# Altium integrated library Renesas Microprocessor SuperH.IntLib: 433 symbols (part 29 of 62)
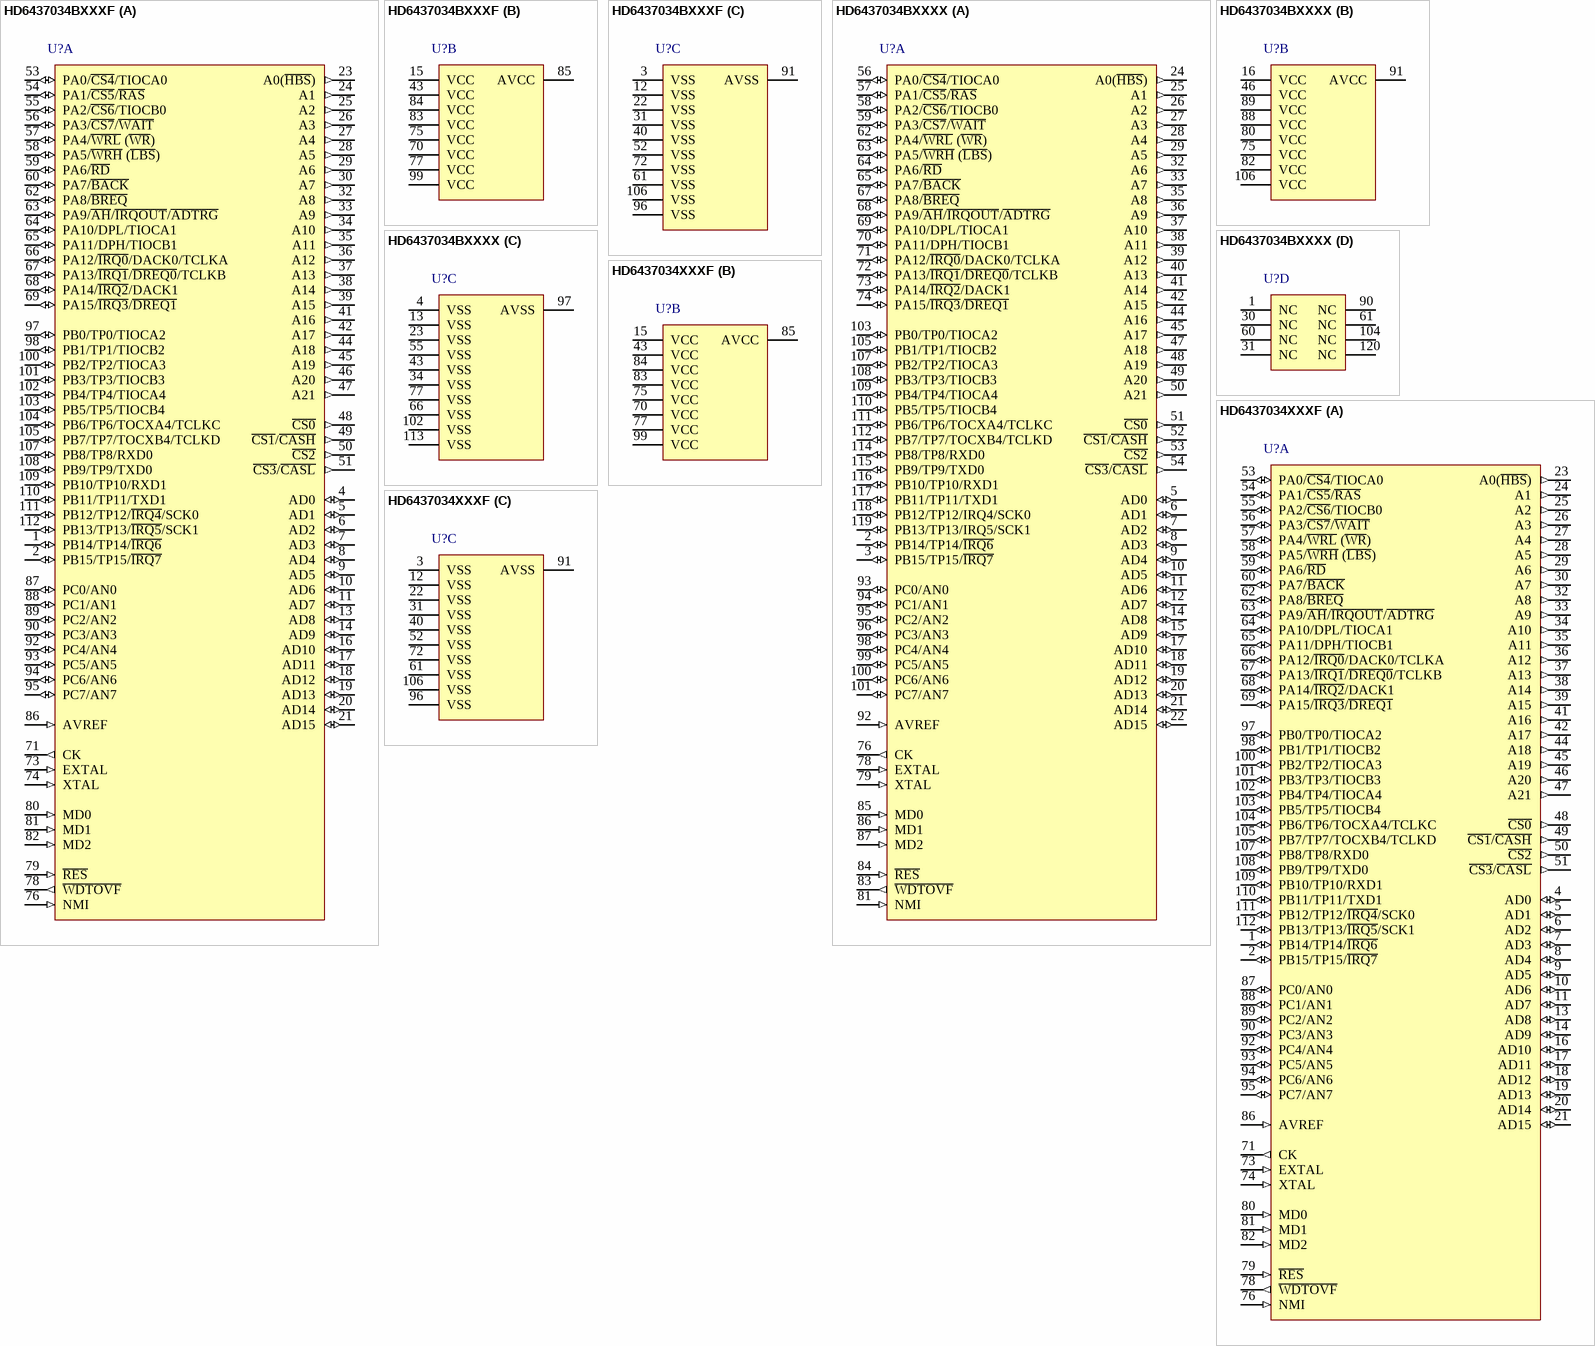
[diagram p300: symbols HD6437034BXXXF to HD6437034XXXF]

## HD6437034XXXF
designator U?
32-Bit RISC Microcomputer, SH7030 Series, SH-1 core, 20MHz, 64K ROM, 4K RAM, PRQP0112JA-A (FP-112) Package; Published: 28-Aug-2009; DatasheetVersion: Rev.7.00, Jan-2006; PackageVersion: Sep-2005; PackageReference: PRQP0112JA-A; Publisher: Altium Limited; PackageDescription: 112-Pin Plastic Quad Flat Pack, 20 x 20 x 2.7 mm Body, 0.65 mm Pitch; Code_JEITA: P-QFP112-20x20-0.65; ComponentLink1Description: Manufacturer Link; ComponentLink1URL: http://www.renesas.com/fmwk.jsp?cnt=sh7032_root.jsp&fp=/products/mpumcu/superh_family/sh7030_series/sh7032_group/; ComponentLink2Description: Datasheet; ComponentLink2URL: http://documentation.renesas.com/eng/products/mpumcu/rej09b0272_7032hm.pdf; ComponentLink3Description: Packaging Specification; ComponentLink3URL: http://sg.renesas.com/media/products/common_info/package/pdf/ic/code/prqp0112ja_a.pdf
footprint PRQP0112JA-A_N (QFP, 112-Leads, Body 20x20mm, Pitch 0.65mm, IPC Medium Density)
footprint PRQP0112JA-A_L (QFP, 112-Leads, Body 20x20mm, Pitch 0.65mm, IPC High Density)
footprint PRQP0112JA-A_M (QFP, 112-Leads, Body 20x20mm, Pitch 0.65mm, IPC Low Density)
part A pins: 1 PB14/TP14/~{IRQ6} (io), 2 PB15/TP15/~{IRQ7} (io), 4 AD0 (io), 5 AD1 (io), 6 AD2 (io), 7 AD3 (io), 8 AD4 (io), 9 AD5 (io), 10 AD6 (io), 11 AD7 (io), 13 AD8 (io), 14 AD9 (io), 16 AD10 (io), 17 AD11 (io), 18 AD12 (io), 19 AD13 (io), 20 AD14 (io), 21 AD15 (io), 23 A0(~{HBS}) (out), 24 A1 (out), 25 A2 (out), 26 A3 (out), 27 A4 (out), 28 A5 (out), 29 A6 (out), 30 A7 (out), 32 A8 (out), 33 A9 (out), 34 A10 (out), 35 A11 (out), 36 A12 (out), 37 A13 (out), 38 A14 (out), 39 A15 (out), 41 A16 (out), 42 A17 (out), 44 A18 (out), 45 A19 (out), 46 A20 (out), 47 A21 (out), 48 ~{CS0} (out), 49 ~{CS1}/~{CASH} (out), 50 ~{CS2} (out), 51 ~{CS3}/~{CASL} (out), 53 PA0/~{CS4}/TIOCA0 (io), 54 PA1/~{CS5}/~{RAS} (io), 55 PA2/~{CS6}/TIOCB0 (io), 56 PA3/~{CS7}/~{WAIT} (io), 57 PA4/~{WRL} (~{WR}) (io), 58 PA5/~{WRH} (~{LBS}) (io), 59 PA6/~{RD} (io), 60 PA7/~{BACK} (io), 62 PA8/~{BREQ} (io), 63 PA9/~{AH}/~{IRQOUT}/~{ADTRG} (io), 64 PA10/DPL/TIOCA1 (io), 65 PA11/DPH/TIOCB1 (io), 66 PA12/~{IRQ0}/DACK0/TCLKA (io), 67 PA13/~{IRQ1}/~{DREQ0}/TCLKB (io), 68 PA14/~{IRQ2}/DACK1 (io), 69 PA15/~{IRQ3}/~{DREQ1} (io), 71 CK (out), 73 EXTAL (in), 74 XTAL (in), 76 NMI (in), 78 ~{WDTOVF} (out), 79 ~{RES} (in), 80 MD0 (in), 81 MD1 (in), 82 MD2 (in), 86 AVREF (in), 87 PC0/AN0 (io), 88 PC1/AN1 (io), 89 PC2/AN2 (io), 90 PC3/AN3 (io), 92 PC4/AN4 (io), 93 PC5/AN5 (io), 94 PC6/AN6 (io), 95 PC7/AN7 (io), 97 PB0/TP0/TIOCA2 (io), 98 PB1/TP1/TIOCB2 (io), 100 PB2/TP2/TIOCA3 (io), 101 PB3/TP3/TIOCB3 (io), 102 PB4/TP4/TIOCA4 (io), 103 PB5/TP5/TIOCB4 (io), 104 PB6/TP6/TOCXA4/TCLKC (io), 105 PB7/TP7/TOCXB4/TCLKD (io), 107 PB8/TP8/RXD0 (io), 108 PB9/TP9/TXD0 (io), 109 PB10/TP10/RXD1 (io), 110 PB11/TP11/TXD1 (io), 111 PB12/TP12/~{IRQ4}/SCK0 (io), 112 PB13/TP13/~{IRQ5}/SCK1 (io)
part B pins: 15 VCC (power), 43 VCC (power), 70 VCC (power), 75 VCC (power), 77 VCC (power), 83 VCC (power), 84 VCC (power), 85 AVCC (power), 99 VCC (power)
part C pins: 3 VSS (power), 12 VSS (power), 22 VSS (power), 31 VSS (power), 40 VSS (power), 52 VSS (power), 61 VSS (power), 72 VSS (power), 91 AVSS (power), 96 VSS (power), 106 VSS (power)

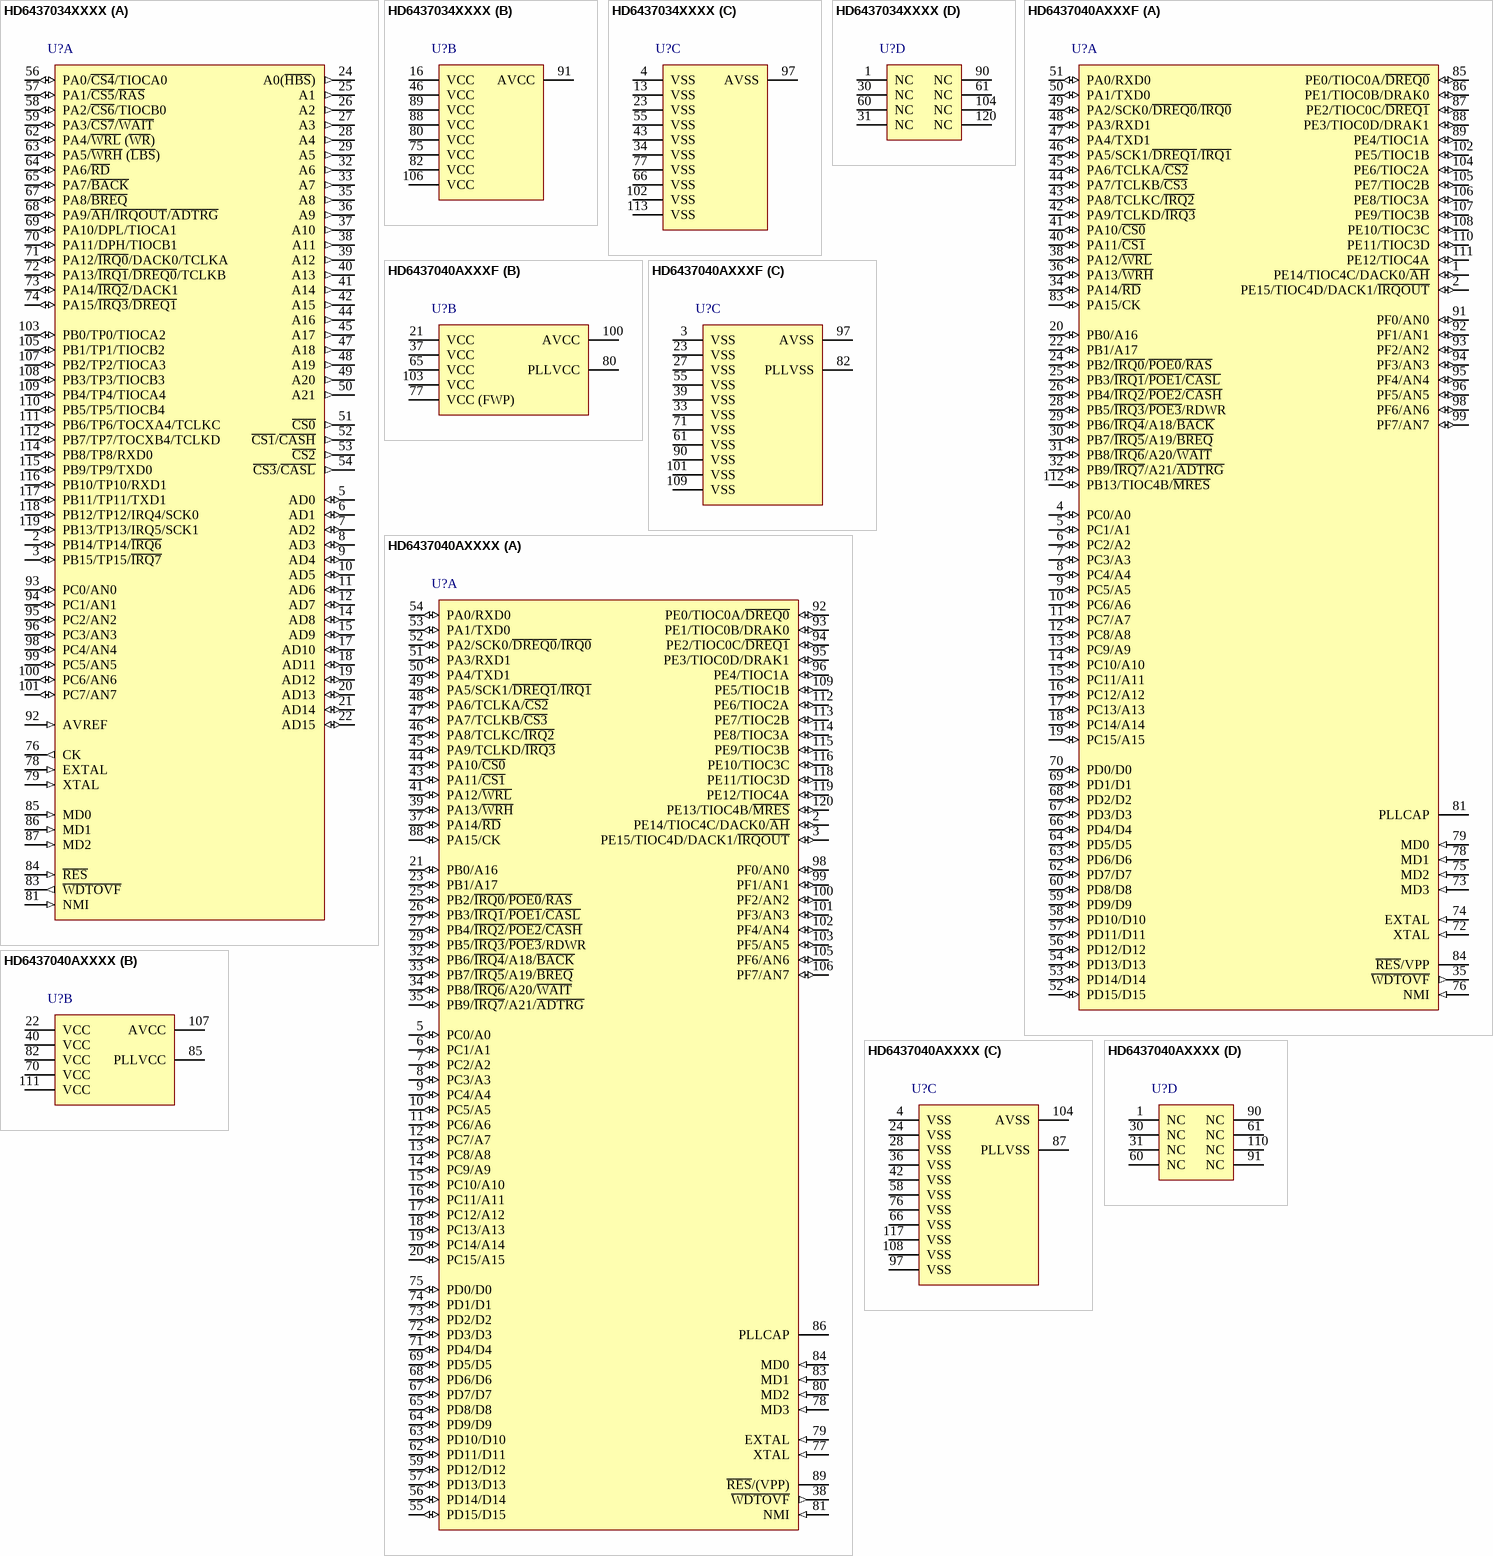
[diagram p105: symbols HD6437034XXXX to HD6437040AXXXX]

## HD6437034XXXX
designator U?
32-Bit RISC Microcomputer, SH7030 Series, SH-1 core, 20MHz, 64K ROM, 4K RAM, PTQP0120LA-A (TFP-120) Package; Published: 28-Aug-2009; DatasheetVersion: Rev.7.00, Jan-2006; PackageVersion: Sep-2005; PackageReference: PTQP0120LA-A; Publisher: Altium Limited; PackageDescription: 120-Pin Plastic Thin QFP, 14 x 14 x 1.0 mm Body, 0.4 mm Pitch; Code_JEITA: P-TQFP120-14x14-0.40; ComponentLink1Description: Manufacturer Link; ComponentLink1URL: http://www.renesas.com/fmwk.jsp?cnt=sh7032_root.jsp&fp=/products/mpumcu/superh_family/sh7030_series/sh7032_group/; ComponentLink2Description: Datasheet; ComponentLink2URL: http://documentation.renesas.com/eng/products/mpumcu/rej09b0272_7032hm.pdf; ComponentLink3Description: Packaging Specification; ComponentLink3URL: http://sg.renesas.com/media/products/common_info/package/pdf/ic/code/ptqp0120la_a.pdf
footprint PTQP0120LA-A_N (Thin QFP, 120-Leads, Body 14x14mm, Pitch 0.4mm, IPC Medium Density)
footprint PTQP0120LA-A_L (Thin QFP, 120-Leads, Body 14x14mm, Pitch 0.4mm, IPC High Density)
footprint PTQP0120LA-A_M (Thin QFP, 120-Leads, Body 14x14mm, Pitch 0.4mm, IPC Low Density)
part A pins: 2 PB14/TP14/~{IRQ6} (io), 3 PB15/TP15/~{IRQ7} (io), 5 AD0 (io), 6 AD1 (io), 7 AD2 (io), 8 AD3 (io), 9 AD4 (io), 10 AD5 (io), 11 AD6 (io), 12 AD7 (io), 14 AD8 (io), 15 AD9 (io), 17 AD10 (io), 18 AD11 (io), 19 AD12 (io), 20 AD13 (io), 21 AD14 (io), 22 AD15 (io), 24 A0(~{HBS}) (out), 25 A1 (out), 26 A2 (out), 27 A3 (out), 28 A4 (out), 29 A5 (out), 32 A6 (out), 33 A7 (out), 35 A8 (out), 36 A9 (out), 37 A10 (out), 38 A11 (out), 39 A12 (out), 40 A13 (out), 41 A14 (out), 42 A15 (out), 44 A16 (out), 45 A17 (out), 47 A18 (out), 48 A19 (out), 49 A20 (out), 50 A21 (out), 51 ~{CS0} (out), 52 ~{CS1}/~{CASH} (out), 53 ~{CS2} (out), 54 ~{CS3}/~{CASL} (out), 56 PA0/~{CS4}/TIOCA0 (io), 57 PA1/~{CS5}/~{RAS} (io), 58 PA2/~{CS6}/TIOCB0 (io), 59 PA3/~{CS7}/~{WAIT} (io), 62 PA4/~{WRL} (~{WR}) (io), 63 PA5/~{WRH} (~{LBS}) (io), 64 PA6/~{RD} (io), 65 PA7/~{BACK} (io), 67 PA8/~{BREQ} (io), 68 PA9/~{AH}/~{IRQOUT}/~{ADTRG} (io), 69 PA10/DPL/TIOCA1 (io), 70 PA11/DPH/TIOCB1 (io), 71 PA12/~{IRQ0}/DACK0/TCLKA (io), 72 PA13/~{IRQ1}/~{DREQ0}/TCLKB (io), 73 PA14/~{IRQ2}/DACK1 (io), 74 PA15/~{IRQ3}/~{DREQ1} (io), 76 CK (out), 78 EXTAL (in), 79 XTAL (in), 81 NMI (in), 83 ~{WDTOVF} (out), 84 ~{RES} (in), 85 MD0 (in), 86 MD1 (in), 87 MD2 (in), 92 AVREF (in), 93 PC0/AN0 (io), 94 PC1/AN1 (io), 95 PC2/AN2 (io), 96 PC3/AN3 (io), 98 PC4/AN4 (io), 99 PC5/AN5 (io), 100 PC6/AN6 (io), 101 PC7/AN7 (io), 103 PB0/TP0/TIOCA2 (io), 105 PB1/TP1/TIOCB2 (io), 107 PB2/TP2/TIOCA3 (io), 108 PB3/TP3/TIOCB3 (io), 109 PB4/TP4/TIOCA4 (io), 110 PB5/TP5/TIOCB4 (io), 111 PB6/TP6/TOCXA4/TCLKC (io), 112 PB7/TP7/TOCXB4/TCLKD (io), 114 PB8/TP8/RXD0 (io), 115 PB9/TP9/TXD0 (io), 116 PB10/TP10/RXD1 (io), 117 PB11/TP11/TXD1 (io), 118 PB12/TP12/IRQ4/SCK0 (io), 119 PB13/TP13/IRQ5/SCK1 (io)
part B pins: 16 VCC (power), 46 VCC (power), 75 VCC (power), 80 VCC (power), 82 VCC (power), 88 VCC (power), 89 VCC (power), 91 AVCC (power), 106 VCC (power)
part C pins: 4 VSS (power), 13 VSS (power), 23 VSS (power), 34 VSS (power), 43 VSS (power), 55 VSS (power), 66 VSS (power), 77 VSS (power), 97 AVSS (power), 102 VSS (power), 113 VSS (power)
part D pins: 1 NC, 30 NC, 31 NC, 60 NC, 61 NC, 90 NC, 104 NC, 120 NC

## HD6437040AXXXF
designator U?
32-Bit RISC Microcomputer, SH7040 Series, SH-2 core, 28.7MHz, 64K ROM, 4K(2K) RAM, PRQP0112JA-A (FP-112) Package; Published: 28-Aug-2009; DatasheetVersion: Rev.6.00, May-2003; PackageVersion: Sep-2005; PackageReference: PRQP0112JA-A; Publisher: Altium Limited; PackageDescription: 112-Pin Plastic Quad Flat Pack, 20 x 20 x 2.7 mm Body, 0.65 mm Pitch; Code_JEITA: P-QFP112-20x20-0.65; ComponentLink1Description: Manufacturer Link; ComponentLink1URL: http://www.renesas.com/fmwk.jsp?cnt=sh7040_root.jsp&fp=/products/mpumcu/superh_family/sh7040_series/sh7040_group/; ComponentLink2Description: Datasheet; ComponentLink2URL: http://documentation.renesas.com/eng/products/mpumcu/rej09b0044_sh7040.pdf; ComponentLink3Description: Packaging Specification; ComponentLink3URL: http://sg.renesas.com/media/products/common_info/package/pdf/ic/code/prqp0112ja_a.pdf
footprint PRQP0112JA-A_N (QFP, 112-Leads, Body 20x20mm, Pitch 0.65mm, IPC Medium Density)
footprint PRQP0112JA-A_L (QFP, 112-Leads, Body 20x20mm, Pitch 0.65mm, IPC High Density)
footprint PRQP0112JA-A_M (QFP, 112-Leads, Body 20x20mm, Pitch 0.65mm, IPC Low Density)
part A pins: 1 PE14/TIOC4C/DACK0/~{AH} (io), 2 PE15/TIOC4D/DACK1/~{IRQOUT} (io), 4 PC0/A0 (io), 5 PC1/A1 (io), 6 PC2/A2 (io), 7 PC3/A3 (io), 8 PC4/A4 (io), 9 PC5/A5 (io), 10 PC6/A6 (io), 11 PC7/A7 (io), 12 PC8/A8 (io), 13 PC9/A9 (io), 14 PC10/A10 (io), 15 PC11/A11 (io), 16 PC12/A12 (io), 17 PC13/A13 (io), 18 PC14/A14 (io), 19 PC15/A15 (io), 20 PB0/A16 (io), 22 PB1/A17 (io), 24 PB2/~{IRQ0}/~{POE0}/~{RAS} (io), 25 PB3/~{IRQ1}/~{POE1}/~{CASL} (io), 26 PB4/~{IRQ2}/~{POE2}/~{CASH} (io), 28 PB5/~{IRQ3}/~{POE3}/RDWR (io), 29 PB6/~{IRQ4}/A18/~{BACK} (io), 30 PB7/~{IRQ5}/A19/~{BREQ} (io), 31 PB8/~{IRQ6}/A20/~{WAIT} (io), 32 PB9/~{IRQ7}/A21/~{ADTRG} (io), 34 PA14/~{RD} (io), 35 ~{WDTOVF} (out), 36 PA13/~{WRH} (io), 38 PA12/~{WRL} (io), 40 PA11/~{CS1} (io), 41 PA10/~{CS0} (io), 42 PA9/TCLKD/~{IRQ3} (io), 43 PA8/TCLKC/~{IRQ2} (io), 44 PA7/TCLKB/~{CS3} (io), 45 PA6/TCLKA/~{CS2} (io), 46 PA5/SCK1/~{DREQ1}/~{IRQ1} (io), 47 PA4/TXD1 (io), 48 PA3/RXD1 (io), 49 PA2/SCK0/~{DREQ0}/~{IRQ0} (io), 50 PA1/TXD0 (io), 51 PA0/RXD0 (io), 52 PD15/D15 (io), 53 PD14/D14 (io), 54 PD13/D13 (io), 56 PD12/D12 (io), 57 PD11/D11 (io), 58 PD10/D10 (io), 59 PD9/D9 (io), 60 PD8/D8 (io), 62 PD7/D7 (io), 63 PD6/D6 (io), 64 PD5/D5 (io), 66 PD4/D4 (io), 67 PD3/D3 (io), 68 PD2/D2 (io), 69 PD1/D1 (io), 70 PD0/D0 (io), 72 XTAL (in), 73 MD3 (in), 74 EXTAL (in), 75 MD2 (in), 76 NMI (in), 78 MD1 (in), 79 MD0 (in), 81 PLLCAP, 83 PA15/CK (io), 84 ~{RES}/VPP, 85 PE0/TIOC0A/~{DREQ0} (io), 86 PE1/TIOC0B/DRAK0 (io), 87 PE2/TIOC0C/~{DREQ1} (io), 88 PE3/TIOC0D/DRAK1 (io), 89 PE4/TIOC1A (io), 91 PF0/AN0 (io), 92 PF1/AN1 (io), 93 PF2/AN2 (io), 94 PF3/AN3 (io), 95 PF4/AN4 (io), 96 PF5/AN5 (io), 98 PF6/AN6 (io), 99 PF7/AN7 (io), 102 PE5/TIOC1B (io), 104 PE6/TIOC2A (io), 105 PE7/TIOC2B (io), 106 PE8/TIOC3A (io), 107 PE9/TIOC3B (io), 108 PE10/TIOC3C (io), 110 PE11/TIOC3D (io), 111 PE12/TIOC4A (io), 112 PB13/TIOC4B/~{MRES} (io)
part B pins: 21 VCC (power), 37 VCC (power), 65 VCC (power), 77 VCC (FWP) (power), 80 PLLVCC (power), 100 AVCC (power), 103 VCC (power)
part C pins: 3 VSS (power), 23 VSS (power), 27 VSS (power), 33 VSS (power), 39 VSS (power), 55 VSS (power), 61 VSS (power), 71 VSS (power), 82 PLLVSS (power), 90 VSS (power), 97 AVSS (power), 101 VSS (power), 109 VSS (power)

## HD6437040AXXXX
designator U?
32-Bit RISC Microcomputer, SH7040 Series, SH-2 core, 16MHz, 64K ROM, 4K(2K) RAM, PTQP0120LA-A (TFP-120) Package; Published: 28-Aug-2009; DatasheetVersion: Rev.6.00, May-2003; PackageVersion: Sep-2005; PackageReference: PTQP0120LA-A; Publisher: Altium Limited; PackageDescription: 120-Pin Plastic Thin QFP, 14 x 14 x 1.0 mm Body, 0.4 mm Pitch; Code_JEITA: P-TQFP120-14x14-0.40; ComponentLink1Description: Manufacturer Link; ComponentLink1URL: http://www.renesas.com/fmwk.jsp?cnt=sh7040_root.jsp&fp=/products/mpumcu/superh_family/sh7040_series/sh7040_group/; ComponentLink2Description: Datasheet; ComponentLink2URL: http://documentation.renesas.com/eng/products/mpumcu/rej09b0044_sh7040.pdf; ComponentLink3Description: Packaging Specification; ComponentLink3URL: http://sg.renesas.com/media/products/common_info/package/pdf/ic/code/ptqp0120la_a.pdf
footprint PTQP0120LA-A_N (Thin QFP, 120-Leads, Body 14x14mm, Pitch 0.4mm, IPC Medium Density)
footprint PTQP0120LA-A_L (Thin QFP, 120-Leads, Body 14x14mm, Pitch 0.4mm, IPC High Density)
footprint PTQP0120LA-A_M (Thin QFP, 120-Leads, Body 14x14mm, Pitch 0.4mm, IPC Low Density)
part A pins: 2 PE14/TIOC4C/DACK0/~{AH} (io), 3 PE15/TIOC4D/DACK1/~{IRQOUT} (io), 5 PC0/A0 (io), 6 PC1/A1 (io), 7 PC2/A2 (io), 8 PC3/A3 (io), 9 PC4/A4 (io), 10 PC5/A5 (io), 11 PC6/A6 (io), 12 PC7/A7 (io), 13 PC8/A8 (io), 14 PC9/A9 (io), 15 PC10/A10 (io), 16 PC11/A11 (io), 17 PC12/A12 (io), 18 PC13/A13 (io), 19 PC14/A14 (io), 20 PC15/A15 (io), 21 PB0/A16 (io), 23 PB1/A17 (io), 25 PB2/~{IRQ0}/~{POE0}/~{RAS} (io), 26 PB3/~{IRQ1}/~{POE1}/~{CASL} (io), 27 PB4/~{IRQ2}/~{POE2}/~{CASH} (io), 29 PB5/~{IRQ3}/~{POE3}/RDWR (io), 32 PB6/~{IRQ4}/A18/~{BACK} (io), 33 PB7/~{IRQ5}/A19/~{BREQ} (io), 34 PB8/~{IRQ6}/A20/~{WAIT} (io), 35 PB9/~{IRQ7}/A21/~{ADTRG} (io), 37 PA14/~{RD} (io), 38 ~{WDTOVF} (out), 39 PA13/~{WRH} (io), 41 PA12/~{WRL} (io), 43 PA11/~{CS1} (io), 44 PA10/~{CS0} (io), 45 PA9/TCLKD/~{IRQ3} (io), 46 PA8/TCLKC/~{IRQ2} (io), 47 PA7/TCLKB/~{CS3} (io), 48 PA6/TCLKA/~{CS2} (io), 49 PA5/SCK1/~{DREQ1}/~{IRQ1} (io), 50 PA4/TXD1 (io), 51 PA3/RXD1 (io), 52 PA2/SCK0/~{DREQ0}/~{IRQ0} (io), 53 PA1/TXD0 (io), 54 PA0/RXD0 (io), 55 PD15/D15 (io), 56 PD14/D14 (io), 57 PD13/D13 (io), 59 PD12/D12 (io), 62 PD11/D11 (io), 63 PD10/D10 (io), 64 PD9/D9 (io), 65 PD8/D8 (io), 67 PD7/D7 (io), 68 PD6/D6 (io), 69 PD5/D5 (io), 71 PD4/D4 (io), 72 PD3/D3 (io), 73 PD2/D2 (io), 74 PD1/D1 (io), 75 PD0/D0 (io), 77 XTAL (in), 78 MD3 (in), 79 EXTAL (in), 80 MD2 (in), 81 NMI (in), 83 MD1 (in), 84 MD0 (in), 86 PLLCAP, 88 PA15/CK (io), 89 ~{RES}/(VPP), 92 PE0/TIOC0A/~{DREQ0} (io), 93 PE1/TIOC0B/DRAK0 (io), 94 PE2/TIOC0C/~{DREQ1} (io), 95 PE3/TIOC0D/DRAK1 (io), 96 PE4/TIOC1A (io), 98 PF0/AN0 (io), 99 PF1/AN1 (io), 100 PF2/AN2 (io), 101 PF3/AN3 (io), 102 PF4/AN4 (io), 103 PF5/AN5 (io), 105 PF6/AN6 (io), 106 PF7/AN7 (io), 109 PE5/TIOC1B (io), 112 PE6/TIOC2A (io), 113 PE7/TIOC2B (io), 114 PE8/TIOC3A (io), 115 PE9/TIOC3B (io), 116 PE10/TIOC3C (io), 118 PE11/TIOC3D (io), 119 PE12/TIOC4A (io), 120 PE13/TIOC4B/~{MRES} (io)
part B pins: 22 VCC (power), 40 VCC (power), 70 VCC (power), 82 VCC (power), 85 PLLVCC (power), 107 AVCC (power), 111 VCC (power)
part C pins: 4 VSS (power), 24 VSS (power), 28 VSS (power), 36 VSS (power), 42 VSS (power), 58 VSS (power), 66 VSS (power), 76 VSS (power), 87 PLLVSS (power), 97 VSS (power), 104 AVSS (power), 108 VSS (power), 117 VSS (power)
part D pins: 1 NC, 30 NC, 31 NC, 60 NC, 61 NC, 90 NC, 91 NC, 110 NC

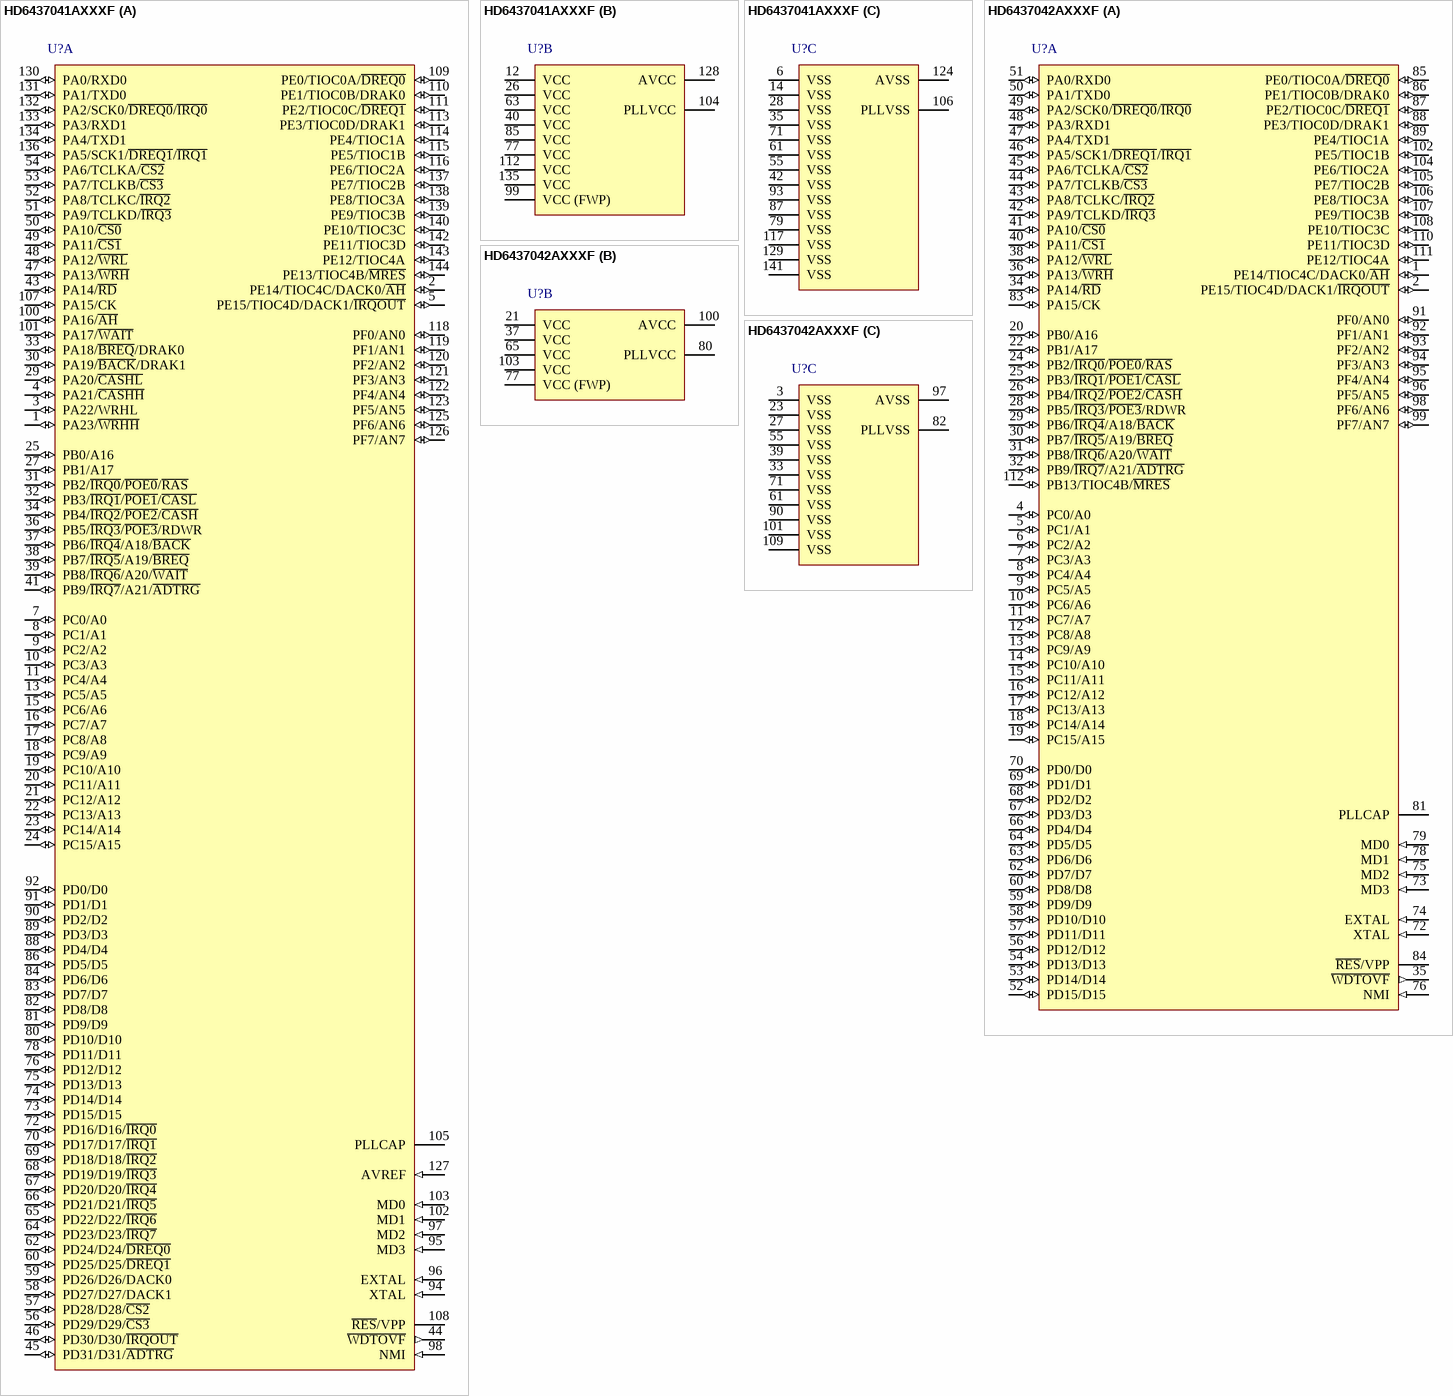
[diagram p106: symbols HD6437041AXXXF to HD6437042AXXXF]

## HD6437041AXXXF
designator U?
32-Bit RISC Microcomputer, SH7040 Series, SH-2 core, 28.7MHz, 64K ROM, 4K(2K) RAM, FP-144 Package; Published: 28-Aug-2009; DatasheetVersion: Rev.6.00, May-2003; PackageVersion: Sep-2005; PackageReference: PRQP0144KB-A; Publisher: Altium Limited; PackageDescription: 144-Pin Plastic Quad Flat Pack, 20 x 20 x 2.7 mm Body, 0.5 mm Pitch; Code_JEITA: P-QFP144-20x20-0.50; ComponentLink1Description: Manufacturer Link; ComponentLink1URL: http://www.renesas.com/fmwk.jsp?cnt=sh7040_root.jsp&fp=/products/mpumcu/superh_family/sh7040_series/sh7040_group/; ComponentLink2Description: Datasheet; ComponentLink2URL: http://documentation.renesas.com/eng/products/mpumcu/rej09b0044_sh7040.pdf; ComponentLink3Description: Packaging Specification; ComponentLink3URL: http://sg.renesas.com/media/products/common_info/package/pdf/ic/code/prqp0144kb_a.pdf
footprint PRQP0144KB-A_N (Shrink QFP, 144-Leads, Body 20x20mm, Pitch 0.5mm, IPC Medium Density)
footprint PRQP0144KB-A_L (Shrink QFP, 144-Leads, Body 20x20mm, Pitch 0.5mm, IPC High Density)
footprint PRQP0144KB-A_M (Shrink QFP, 144-Leads, Body 20x20mm, Pitch 0.5mm, IPC Low Density)
part A pins: 1 PA23/~{WRHH} (io), 2 PE14/TIOC4C/DACK0/~{AH} (io), 3 PA22/WRHL (io), 4 PA21/~{CASHH} (io), 5 PE15/TIOC4D/DACK1/~{IRQOUT} (io), 7 PC0/A0 (io), 8 PC1/A1 (io), 9 PC2/A2 (io), 10 PC3/A3 (io), 11 PC4/A4 (io), 13 PC5/A5 (io), 15 PC6/A6 (io), 16 PC7/A7 (io), 17 PC8/A8 (io), 18 PC9/A9 (io), 19 PC10/A10 (io), 20 PC11/A11 (io), 21 PC12/A12 (io), 22 PC13/A13 (io), 23 PC14/A14 (io), 24 PC15/A15 (io), 25 PB0/A16 (io), 27 PB1/A17 (io), 29 PA20/~{CASHL} (io), 30 PA19/~{BACK}/DRAK1 (io), 31 PB2/~{IRQ0}/~{POE0}/~{RAS} (io), 32 PB3/~{IRQ1}/~{POE1}/~{CASL} (io), 33 PA18/~{BREQ}/DRAK0 (io), 34 PB4/~{IRQ2}/~{POE2}/~{CASH} (io), 36 PB5/~{IRQ3}/~{POE3}/RDWR (io), 37 PB6/~{IRQ4}/A18/~{BACK} (io), 38 PB7/~{IRQ5}/A19/~{BREQ} (io), 39 PB8/~{IRQ6}/A20/~{WAIT} (io), 41 PB9/~{IRQ7}/A21/~{ADTRG} (io), 43 PA14/~{RD} (io), 44 ~{WDTOVF} (out), 45 PD31/D31/~{ADTRG} (io), 46 PD30/D30/~{IRQOUT} (io), 47 PA13/~{WRH} (io), 48 PA12/~{WRL} (io), 49 PA11/~{CS1} (io), 50 PA10/~{CS0} (io), 51 PA9/TCLKD/~{IRQ3} (io), 52 PA8/TCLKC/~{IRQ2} (io), 53 PA7/TCLKB/~{CS3} (io), 54 PA6/TCLKA/~{CS2} (io), 56 PD29/D29/~{CS3} (io), 57 PD28/D28/~{CS2} (io), 58 PD27/D27/DACK1 (io), 59 PD26/D26/DACK0 (io), 60 PD25/D25/~{DREQ1} (io), 62 PD24/D24/~{DREQ0} (io), 64 PD23/D23/~{IRQ7} (io), 65 PD22/D22/~{IRQ6} (io), 66 PD21/D21/~{IRQ5} (io), 67 PD20/D20/~{IRQ4} (io), 68 PD19/D19/~{IRQ3} (io), 69 PD18/D18/~{IRQ2} (io), 70 PD17/D17/~{IRQ1} (io), 72 PD16/D16/~{IRQ0} (io), 73 PD15/D15 (io), 74 PD14/D14 (io), 75 PD13/D13 (io), 76 PD12/D12 (io), 78 PD11/D11 (io), 80 PD10/D10 (io), 81 PD9/D9 (io), 82 PD8/D8 (io), 83 PD7/D7 (io), 84 PD6/D6 (io), 86 PD5/D5 (io), 88 PD4/D4 (io), 89 PD3/D3 (io), 90 PD2/D2 (io), 91 PD1/D1 (io), 92 PD0/D0 (io), 94 XTAL (in), 95 MD3 (in), 96 EXTAL (in), 97 MD2 (in), 98 NMI (in), 100 PA16/~{AH} (io), 101 PA17/~{WAIT} (io), 102 MD1 (in), 103 MD0 (in), 105 PLLCAP, 107 PA15/CK (io), 108 ~{RES}/VPP, 109 PE0/TIOC0A/~{DREQ0} (io), 110 PE1/TIOC0B/DRAK0 (io), 111 PE2/TIOC0C/~{DREQ1} (io), 113 PE3/TIOC0D/DRAK1 (io), 114 PE4/TIOC1A (io), 115 PE5/TIOC1B (io), 116 PE6/TIOC2A (io), 118 PF0/AN0 (io), 119 PF1/AN1 (io), 120 PF2/AN2 (io), 121 PF3/AN3 (io), 122 PF4/AN4 (io), 123 PF5/AN5 (io), 125 PF6/AN6 (io), 126 PF7/AN7 (io), 127 AVREF (in), 130 PA0/RXD0 (io), 131 PA1/TXD0 (io), 132 PA2/SCK0/~{DREQ0}/~{IRQ0} (io), 133 PA3/RXD1 (io), 134 PA4/TXD1 (io), 136 PA5/SCK1/~{DREQ1}/~{IRQ1} (io), 137 PE7/TIOC2B (io), 138 PE8/TIOC3A (io), 139 PE9/TIOC3B (io), 140 PE10/TIOC3C (io), 142 PE11/TIOC3D (io), 143 PE12/TIOC4A (io), 144 PE13/TIOC4B/~{MRES} (io)
part B pins: 12 VCC (power), 26 VCC (power), 40 VCC (power), 63 VCC (power), 77 VCC (power), 85 VCC (power), 99 VCC (FWP) (power), 104 PLLVCC (power), 112 VCC (power), 128 AVCC (power), 135 VCC (power)
part C pins: 6 VSS (power), 14 VSS (power), 28 VSS (power), 35 VSS (power), 42 VSS (power), 55 VSS (power), 61 VSS (power), 71 VSS (power), 79 VSS (power), 87 VSS (power), 93 VSS (power), 106 PLLVSS (power), 117 VSS (power), 124 AVSS (power), 129 VSS (power), 141 VSS (power)

## HD6437042AXXXF
designator U?
32-Bit RISC Microcomputer, SH7040 Series, SH-2 core, 28.7MHz, 128K ROM, 4K(2K) RAM, PRQP0112JA-A (FP-112) Package; Published: 28-Aug-2009; DatasheetVersion: Rev.6.00, May-2003; PackageVersion: Sep-2005; PackageReference: PRQP0112JA-A; Publisher: Altium Limited; PackageDescription: 112-Pin Plastic Quad Flat Pack, 20 x 20 x 2.7 mm Body, 0.65 mm Pitch; Code_JEITA: P-QFP112-20x20-0.65; ComponentLink1Description: Manufacturer Link; ComponentLink1URL: http://www.renesas.com/fmwk.jsp?cnt=sh7040_root.jsp&fp=/products/mpumcu/superh_family/sh7040_series/sh7040_group/; ComponentLink2Description: Datasheet; ComponentLink2URL: http://documentation.renesas.com/eng/products/mpumcu/rej09b0044_sh7040.pdf; ComponentLink3Description: Packaging Specification; ComponentLink3URL: http://sg.renesas.com/media/products/common_info/package/pdf/ic/code/prqp0112ja_a.pdf
footprint PRQP0112JA-A_N (QFP, 112-Leads, Body 20x20mm, Pitch 0.65mm, IPC Medium Density)
footprint PRQP0112JA-A_L (QFP, 112-Leads, Body 20x20mm, Pitch 0.65mm, IPC High Density)
footprint PRQP0112JA-A_M (QFP, 112-Leads, Body 20x20mm, Pitch 0.65mm, IPC Low Density)
part A pins: 1 PE14/TIOC4C/DACK0/~{AH} (io), 2 PE15/TIOC4D/DACK1/~{IRQOUT} (io), 4 PC0/A0 (io), 5 PC1/A1 (io), 6 PC2/A2 (io), 7 PC3/A3 (io), 8 PC4/A4 (io), 9 PC5/A5 (io), 10 PC6/A6 (io), 11 PC7/A7 (io), 12 PC8/A8 (io), 13 PC9/A9 (io), 14 PC10/A10 (io), 15 PC11/A11 (io), 16 PC12/A12 (io), 17 PC13/A13 (io), 18 PC14/A14 (io), 19 PC15/A15 (io), 20 PB0/A16 (io), 22 PB1/A17 (io), 24 PB2/~{IRQ0}/~{POE0}/~{RAS} (io), 25 PB3/~{IRQ1}/~{POE1}/~{CASL} (io), 26 PB4/~{IRQ2}/~{POE2}/~{CASH} (io), 28 PB5/~{IRQ3}/~{POE3}/RDWR (io), 29 PB6/~{IRQ4}/A18/~{BACK} (io), 30 PB7/~{IRQ5}/A19/~{BREQ} (io), 31 PB8/~{IRQ6}/A20/~{WAIT} (io), 32 PB9/~{IRQ7}/A21/~{ADTRG} (io), 34 PA14/~{RD} (io), 35 ~{WDTOVF} (out), 36 PA13/~{WRH} (io), 38 PA12/~{WRL} (io), 40 PA11/~{CS1} (io), 41 PA10/~{CS0} (io), 42 PA9/TCLKD/~{IRQ3} (io), 43 PA8/TCLKC/~{IRQ2} (io), 44 PA7/TCLKB/~{CS3} (io), 45 PA6/TCLKA/~{CS2} (io), 46 PA5/SCK1/~{DREQ1}/~{IRQ1} (io), 47 PA4/TXD1 (io), 48 PA3/RXD1 (io), 49 PA2/SCK0/~{DREQ0}/~{IRQ0} (io), 50 PA1/TXD0 (io), 51 PA0/RXD0 (io), 52 PD15/D15 (io), 53 PD14/D14 (io), 54 PD13/D13 (io), 56 PD12/D12 (io), 57 PD11/D11 (io), 58 PD10/D10 (io), 59 PD9/D9 (io), 60 PD8/D8 (io), 62 PD7/D7 (io), 63 PD6/D6 (io), 64 PD5/D5 (io), 66 PD4/D4 (io), 67 PD3/D3 (io), 68 PD2/D2 (io), 69 PD1/D1 (io), 70 PD0/D0 (io), 72 XTAL (in), 73 MD3 (in), 74 EXTAL (in), 75 MD2 (in), 76 NMI (in), 78 MD1 (in), 79 MD0 (in), 81 PLLCAP, 83 PA15/CK (io), 84 ~{RES}/VPP, 85 PE0/TIOC0A/~{DREQ0} (io), 86 PE1/TIOC0B/DRAK0 (io), 87 PE2/TIOC0C/~{DREQ1} (io), 88 PE3/TIOC0D/DRAK1 (io), 89 PE4/TIOC1A (io), 91 PF0/AN0 (io), 92 PF1/AN1 (io), 93 PF2/AN2 (io), 94 PF3/AN3 (io), 95 PF4/AN4 (io), 96 PF5/AN5 (io), 98 PF6/AN6 (io), 99 PF7/AN7 (io), 102 PE5/TIOC1B (io), 104 PE6/TIOC2A (io), 105 PE7/TIOC2B (io), 106 PE8/TIOC3A (io), 107 PE9/TIOC3B (io), 108 PE10/TIOC3C (io), 110 PE11/TIOC3D (io), 111 PE12/TIOC4A (io), 112 PB13/TIOC4B/~{MRES} (io)
part B pins: 21 VCC (power), 37 VCC (power), 65 VCC (power), 77 VCC (FWP) (power), 80 PLLVCC (power), 100 AVCC (power), 103 VCC (power)
part C pins: 3 VSS (power), 23 VSS (power), 27 VSS (power), 33 VSS (power), 39 VSS (power), 55 VSS (power), 61 VSS (power), 71 VSS (power), 82 PLLVSS (power), 90 VSS (power), 97 AVSS (power), 101 VSS (power), 109 VSS (power)

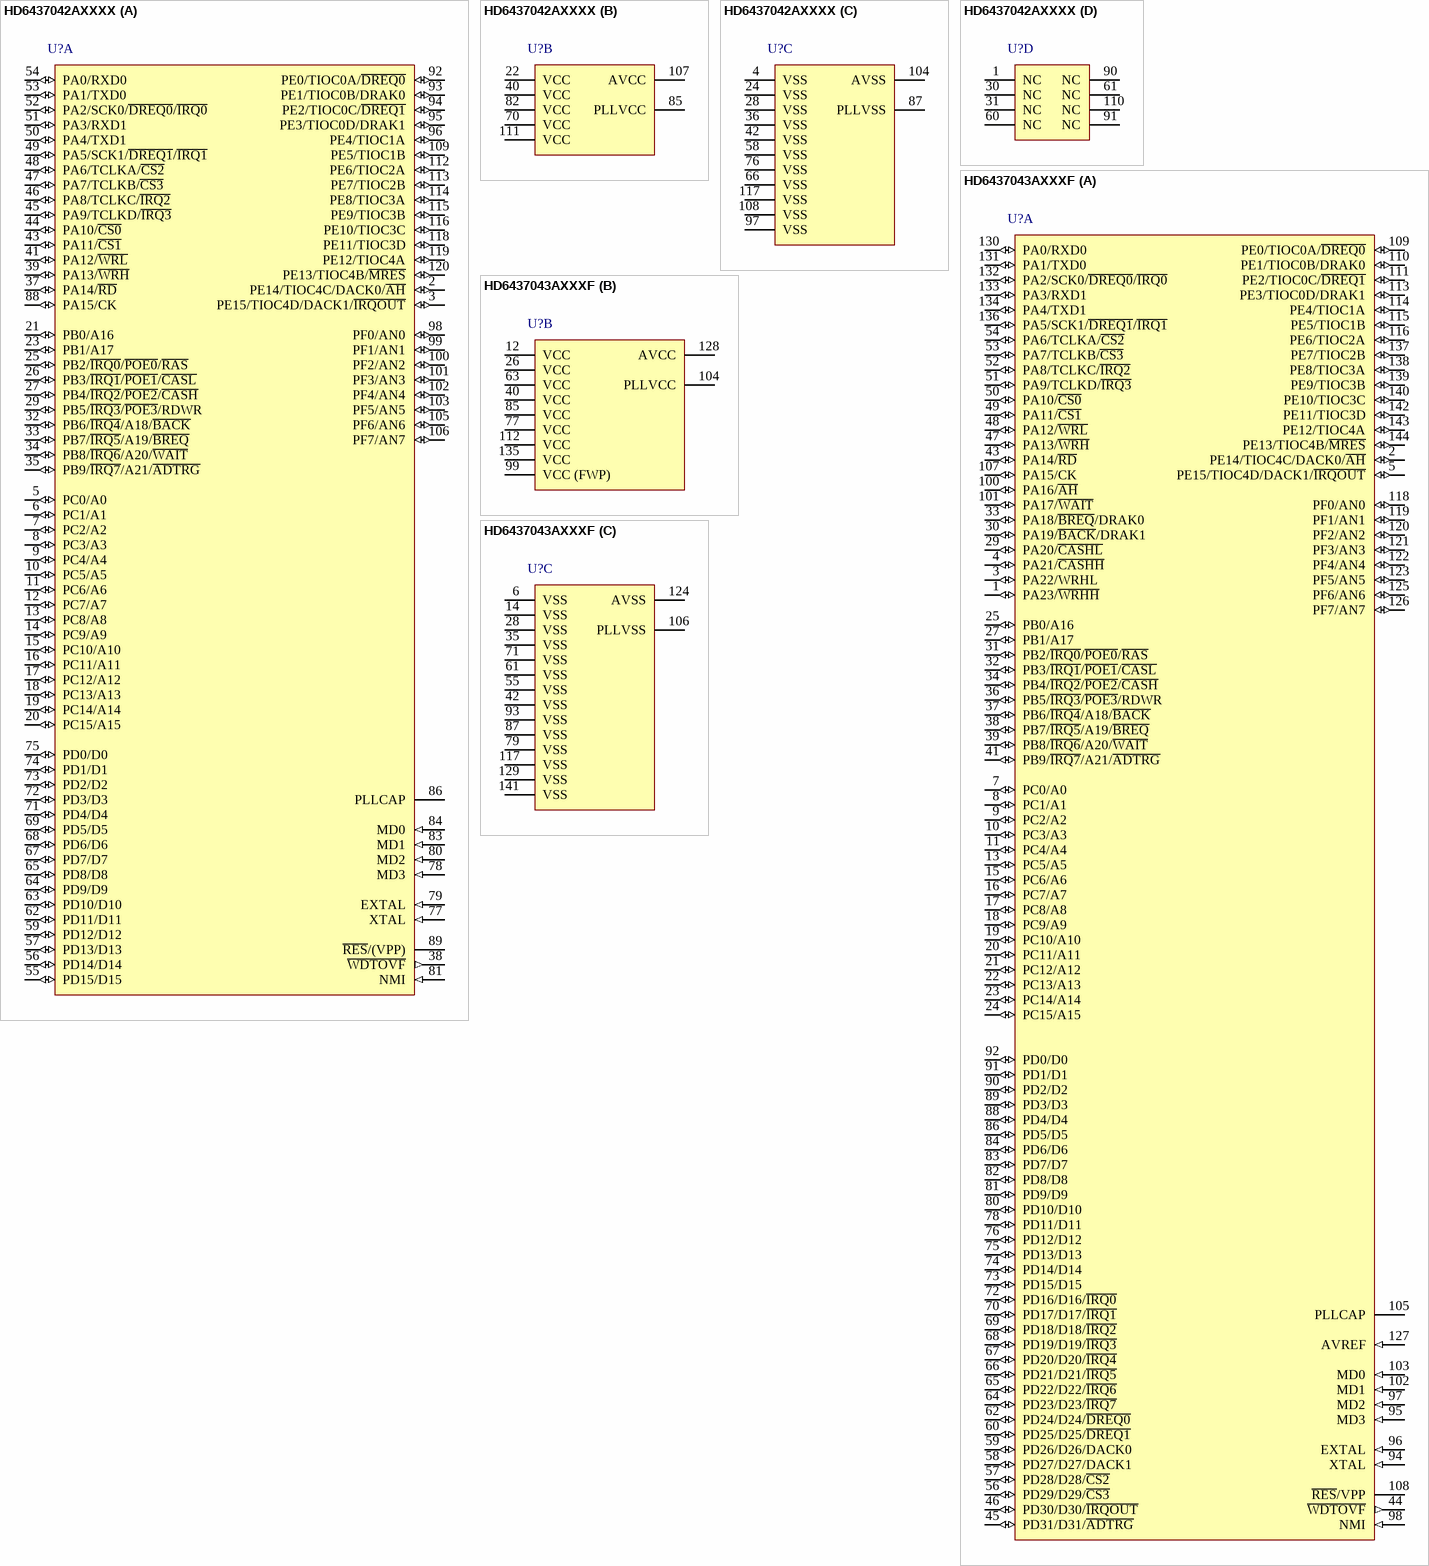
[diagram p107: symbols HD6437042AXXXX to HD6437043AXXXF]

## HD6437042AXXXX
designator U?
32-Bit RISC Microcomputer, SH7040 Series, SH-2 core, 16MHz, 128K ROM, 4K(2K) RAM, PTQP0120LA-A (TFP-120) Package; Published: 28-Aug-2009; DatasheetVersion: Rev.6.00, May-2003; PackageVersion: Sep-2005; PackageReference: PTQP0120LA-A; Publisher: Altium Limited; PackageDescription: 120-Pin Plastic Thin QFP, 14 x 14 x 1.0 mm Body, 0.4 mm Pitch; Code_JEITA: P-TQFP120-14x14-0.40; ComponentLink1Description: Manufacturer Link; ComponentLink1URL: http://www.renesas.com/fmwk.jsp?cnt=sh7040_root.jsp&fp=/products/mpumcu/superh_family/sh7040_series/sh7040_group/; ComponentLink2Description: Datasheet; ComponentLink2URL: http://documentation.renesas.com/eng/products/mpumcu/rej09b0044_sh7040.pdf; ComponentLink3Description: Packaging Specification; ComponentLink3URL: http://sg.renesas.com/media/products/common_info/package/pdf/ic/code/ptqp0120la_a.pdf
footprint PTQP0120LA-A_N (Thin QFP, 120-Leads, Body 14x14mm, Pitch 0.4mm, IPC Medium Density)
footprint PTQP0120LA-A_L (Thin QFP, 120-Leads, Body 14x14mm, Pitch 0.4mm, IPC High Density)
footprint PTQP0120LA-A_M (Thin QFP, 120-Leads, Body 14x14mm, Pitch 0.4mm, IPC Low Density)
part A pins: 2 PE14/TIOC4C/DACK0/~{AH} (io), 3 PE15/TIOC4D/DACK1/~{IRQOUT} (io), 5 PC0/A0 (io), 6 PC1/A1 (io), 7 PC2/A2 (io), 8 PC3/A3 (io), 9 PC4/A4 (io), 10 PC5/A5 (io), 11 PC6/A6 (io), 12 PC7/A7 (io), 13 PC8/A8 (io), 14 PC9/A9 (io), 15 PC10/A10 (io), 16 PC11/A11 (io), 17 PC12/A12 (io), 18 PC13/A13 (io), 19 PC14/A14 (io), 20 PC15/A15 (io), 21 PB0/A16 (io), 23 PB1/A17 (io), 25 PB2/~{IRQ0}/~{POE0}/~{RAS} (io), 26 PB3/~{IRQ1}/~{POE1}/~{CASL} (io), 27 PB4/~{IRQ2}/~{POE2}/~{CASH} (io), 29 PB5/~{IRQ3}/~{POE3}/RDWR (io), 32 PB6/~{IRQ4}/A18/~{BACK} (io), 33 PB7/~{IRQ5}/A19/~{BREQ} (io), 34 PB8/~{IRQ6}/A20/~{WAIT} (io), 35 PB9/~{IRQ7}/A21/~{ADTRG} (io), 37 PA14/~{RD} (io), 38 ~{WDTOVF} (out), 39 PA13/~{WRH} (io), 41 PA12/~{WRL} (io), 43 PA11/~{CS1} (io), 44 PA10/~{CS0} (io), 45 PA9/TCLKD/~{IRQ3} (io), 46 PA8/TCLKC/~{IRQ2} (io), 47 PA7/TCLKB/~{CS3} (io), 48 PA6/TCLKA/~{CS2} (io), 49 PA5/SCK1/~{DREQ1}/~{IRQ1} (io), 50 PA4/TXD1 (io), 51 PA3/RXD1 (io), 52 PA2/SCK0/~{DREQ0}/~{IRQ0} (io), 53 PA1/TXD0 (io), 54 PA0/RXD0 (io), 55 PD15/D15 (io), 56 PD14/D14 (io), 57 PD13/D13 (io), 59 PD12/D12 (io), 62 PD11/D11 (io), 63 PD10/D10 (io), 64 PD9/D9 (io), 65 PD8/D8 (io), 67 PD7/D7 (io), 68 PD6/D6 (io), 69 PD5/D5 (io), 71 PD4/D4 (io), 72 PD3/D3 (io), 73 PD2/D2 (io), 74 PD1/D1 (io), 75 PD0/D0 (io), 77 XTAL (in), 78 MD3 (in), 79 EXTAL (in), 80 MD2 (in), 81 NMI (in), 83 MD1 (in), 84 MD0 (in), 86 PLLCAP, 88 PA15/CK (io), 89 ~{RES}/(VPP), 92 PE0/TIOC0A/~{DREQ0} (io), 93 PE1/TIOC0B/DRAK0 (io), 94 PE2/TIOC0C/~{DREQ1} (io), 95 PE3/TIOC0D/DRAK1 (io), 96 PE4/TIOC1A (io), 98 PF0/AN0 (io), 99 PF1/AN1 (io), 100 PF2/AN2 (io), 101 PF3/AN3 (io), 102 PF4/AN4 (io), 103 PF5/AN5 (io), 105 PF6/AN6 (io), 106 PF7/AN7 (io), 109 PE5/TIOC1B (io), 112 PE6/TIOC2A (io), 113 PE7/TIOC2B (io), 114 PE8/TIOC3A (io), 115 PE9/TIOC3B (io), 116 PE10/TIOC3C (io), 118 PE11/TIOC3D (io), 119 PE12/TIOC4A (io), 120 PE13/TIOC4B/~{MRES} (io)
part B pins: 22 VCC (power), 40 VCC (power), 70 VCC (power), 82 VCC (power), 85 PLLVCC (power), 107 AVCC (power), 111 VCC (power)
part C pins: 4 VSS (power), 24 VSS (power), 28 VSS (power), 36 VSS (power), 42 VSS (power), 58 VSS (power), 66 VSS (power), 76 VSS (power), 87 PLLVSS (power), 97 VSS (power), 104 AVSS (power), 108 VSS (power), 117 VSS (power)
part D pins: 1 NC, 30 NC, 31 NC, 60 NC, 61 NC, 90 NC, 91 NC, 110 NC

## HD6437043AXXXF
designator U?
32-Bit RISC Microcomputer, SH7040 Series, SH-2 core, 28.7MHz, 128K ROM, 4K(2K) RAM, FP-144 Package; Published: 28-Aug-2009; DatasheetVersion: Rev.6.00, May-2003; PackageVersion: Sep-2005; PackageReference: PRQP0144KB-A; Publisher: Altium Limited; PackageDescription: 144-Pin Plastic Quad Flat Pack, 20 x 20 x 2.7 mm Body, 0.5 mm Pitch; Code_JEITA: P-QFP144-20x20-0.50; ComponentLink1Description: Manufacturer Link; ComponentLink1URL: http://www.renesas.com/fmwk.jsp?cnt=sh7040_root.jsp&fp=/products/mpumcu/superh_family/sh7040_series/sh7040_group/; ComponentLink2Description: Datasheet; ComponentLink2URL: http://documentation.renesas.com/eng/products/mpumcu/rej09b0044_sh7040.pdf; ComponentLink3Description: Packaging Specification; ComponentLink3URL: http://sg.renesas.com/media/products/common_info/package/pdf/ic/code/prqp0144kb_a.pdf
footprint PRQP0144KB-A_N (Shrink QFP, 144-Leads, Body 20x20mm, Pitch 0.5mm, IPC Medium Density)
footprint PRQP0144KB-A_L (Shrink QFP, 144-Leads, Body 20x20mm, Pitch 0.5mm, IPC High Density)
footprint PRQP0144KB-A_M (Shrink QFP, 144-Leads, Body 20x20mm, Pitch 0.5mm, IPC Low Density)
part A pins: 1 PA23/~{WRHH} (io), 2 PE14/TIOC4C/DACK0/~{AH} (io), 3 PA22/WRHL (io), 4 PA21/~{CASHH} (io), 5 PE15/TIOC4D/DACK1/~{IRQOUT} (io), 7 PC0/A0 (io), 8 PC1/A1 (io), 9 PC2/A2 (io), 10 PC3/A3 (io), 11 PC4/A4 (io), 13 PC5/A5 (io), 15 PC6/A6 (io), 16 PC7/A7 (io), 17 PC8/A8 (io), 18 PC9/A9 (io), 19 PC10/A10 (io), 20 PC11/A11 (io), 21 PC12/A12 (io), 22 PC13/A13 (io), 23 PC14/A14 (io), 24 PC15/A15 (io), 25 PB0/A16 (io), 27 PB1/A17 (io), 29 PA20/~{CASHL} (io), 30 PA19/~{BACK}/DRAK1 (io), 31 PB2/~{IRQ0}/~{POE0}/~{RAS} (io), 32 PB3/~{IRQ1}/~{POE1}/~{CASL} (io), 33 PA18/~{BREQ}/DRAK0 (io), 34 PB4/~{IRQ2}/~{POE2}/~{CASH} (io), 36 PB5/~{IRQ3}/~{POE3}/RDWR (io), 37 PB6/~{IRQ4}/A18/~{BACK} (io), 38 PB7/~{IRQ5}/A19/~{BREQ} (io), 39 PB8/~{IRQ6}/A20/~{WAIT} (io), 41 PB9/~{IRQ7}/A21/~{ADTRG} (io), 43 PA14/~{RD} (io), 44 ~{WDTOVF} (out), 45 PD31/D31/~{ADTRG} (io), 46 PD30/D30/~{IRQOUT} (io), 47 PA13/~{WRH} (io), 48 PA12/~{WRL} (io), 49 PA11/~{CS1} (io), 50 PA10/~{CS0} (io), 51 PA9/TCLKD/~{IRQ3} (io), 52 PA8/TCLKC/~{IRQ2} (io), 53 PA7/TCLKB/~{CS3} (io), 54 PA6/TCLKA/~{CS2} (io), 56 PD29/D29/~{CS3} (io), 57 PD28/D28/~{CS2} (io), 58 PD27/D27/DACK1 (io), 59 PD26/D26/DACK0 (io), 60 PD25/D25/~{DREQ1} (io), 62 PD24/D24/~{DREQ0} (io), 64 PD23/D23/~{IRQ7} (io), 65 PD22/D22/~{IRQ6} (io), 66 PD21/D21/~{IRQ5} (io), 67 PD20/D20/~{IRQ4} (io), 68 PD19/D19/~{IRQ3} (io), 69 PD18/D18/~{IRQ2} (io), 70 PD17/D17/~{IRQ1} (io), 72 PD16/D16/~{IRQ0} (io), 73 PD15/D15 (io), 74 PD14/D14 (io), 75 PD13/D13 (io), 76 PD12/D12 (io), 78 PD11/D11 (io), 80 PD10/D10 (io), 81 PD9/D9 (io), 82 PD8/D8 (io), 83 PD7/D7 (io), 84 PD6/D6 (io), 86 PD5/D5 (io), 88 PD4/D4 (io), 89 PD3/D3 (io), 90 PD2/D2 (io), 91 PD1/D1 (io), 92 PD0/D0 (io), 94 XTAL (in), 95 MD3 (in), 96 EXTAL (in), 97 MD2 (in), 98 NMI (in), 100 PA16/~{AH} (io), 101 PA17/~{WAIT} (io), 102 MD1 (in), 103 MD0 (in), 105 PLLCAP, 107 PA15/CK (io), 108 ~{RES}/VPP, 109 PE0/TIOC0A/~{DREQ0} (io), 110 PE1/TIOC0B/DRAK0 (io), 111 PE2/TIOC0C/~{DREQ1} (io), 113 PE3/TIOC0D/DRAK1 (io), 114 PE4/TIOC1A (io), 115 PE5/TIOC1B (io), 116 PE6/TIOC2A (io), 118 PF0/AN0 (io), 119 PF1/AN1 (io), 120 PF2/AN2 (io), 121 PF3/AN3 (io), 122 PF4/AN4 (io), 123 PF5/AN5 (io), 125 PF6/AN6 (io), 126 PF7/AN7 (io), 127 AVREF (in), 130 PA0/RXD0 (io), 131 PA1/TXD0 (io), 132 PA2/SCK0/~{DREQ0}/~{IRQ0} (io), 133 PA3/RXD1 (io), 134 PA4/TXD1 (io), 136 PA5/SCK1/~{DREQ1}/~{IRQ1} (io), 137 PE7/TIOC2B (io), 138 PE8/TIOC3A (io), 139 PE9/TIOC3B (io), 140 PE10/TIOC3C (io), 142 PE11/TIOC3D (io), 143 PE12/TIOC4A (io), 144 PE13/TIOC4B/~{MRES} (io)
part B pins: 12 VCC (power), 26 VCC (power), 40 VCC (power), 63 VCC (power), 77 VCC (power), 85 VCC (power), 99 VCC (FWP) (power), 104 PLLVCC (power), 112 VCC (power), 128 AVCC (power), 135 VCC (power)
part C pins: 6 VSS (power), 14 VSS (power), 28 VSS (power), 35 VSS (power), 42 VSS (power), 55 VSS (power), 61 VSS (power), 71 VSS (power), 79 VSS (power), 87 VSS (power), 93 VSS (power), 106 PLLVSS (power), 117 VSS (power), 124 AVSS (power), 129 VSS (power), 141 VSS (power)

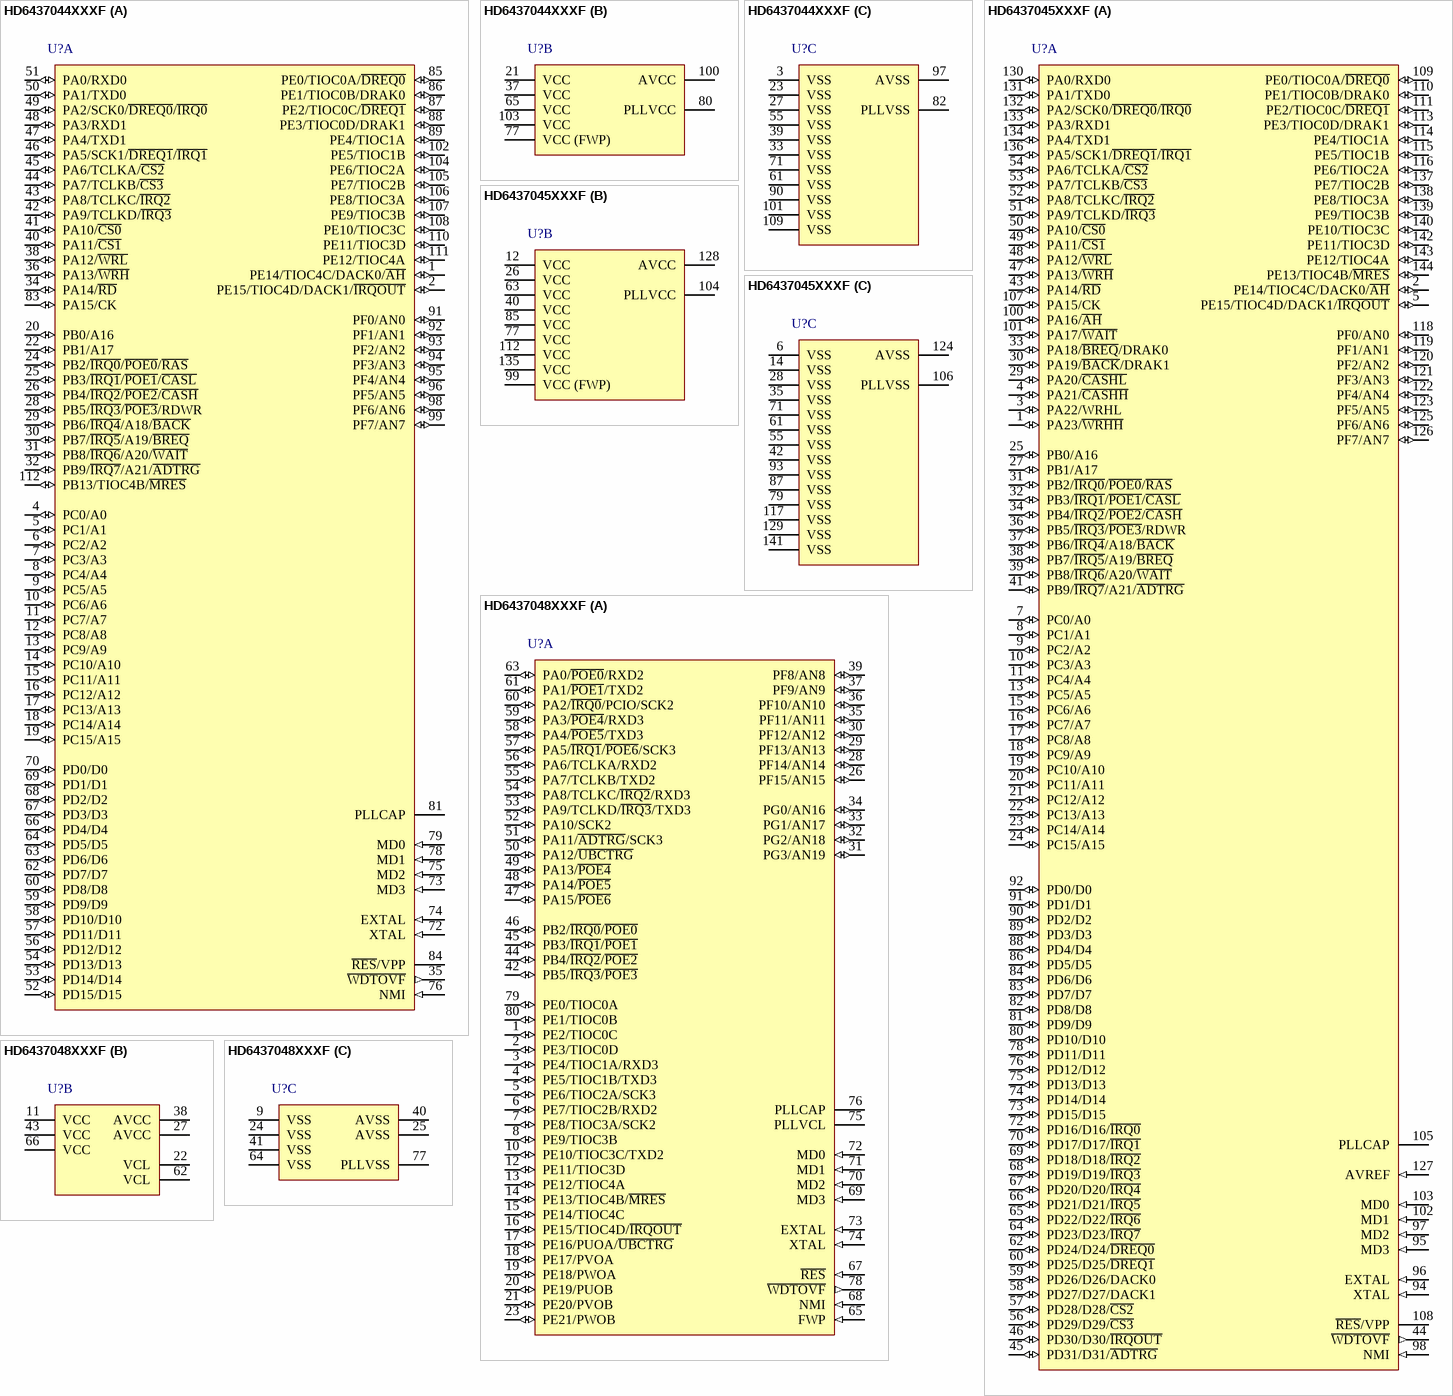
[diagram p108: symbols HD6437044XXXF to HD6437048XXXF]

## HD6437044XXXF
designator U?
32-Bit RISC Microcomputer, SH7040 Series, SH-2 core, 28.7MHz, 256K ROM, 4K(2K) RAM, PRQP0112JA-A (FP-112) Package; Published: 28-Aug-2009; DatasheetVersion: Rev.6.00, May-2003; PackageVersion: Sep-2005; PackageReference: PRQP0112JA-A; Publisher: Altium Limited; PackageDescription: 112-Pin Plastic Quad Flat Pack, 20 x 20 x 2.7 mm Body, 0.65 mm Pitch; Code_JEITA: P-QFP112-20x20-0.65; ComponentLink1Description: Manufacturer Link; ComponentLink1URL: http://www.renesas.com/fmwk.jsp?cnt=sh7040_root.jsp&fp=/products/mpumcu/superh_family/sh7040_series/sh7040_group/; ComponentLink2Description: Datasheet; ComponentLink2URL: http://documentation.renesas.com/eng/products/mpumcu/rej09b0044_sh7040.pdf; ComponentLink3Description: Packaging Specification; ComponentLink3URL: http://sg.renesas.com/media/products/common_info/package/pdf/ic/code/prqp0112ja_a.pdf
footprint PRQP0112JA-A_N (QFP, 112-Leads, Body 20x20mm, Pitch 0.65mm, IPC Medium Density)
footprint PRQP0112JA-A_L (QFP, 112-Leads, Body 20x20mm, Pitch 0.65mm, IPC High Density)
footprint PRQP0112JA-A_M (QFP, 112-Leads, Body 20x20mm, Pitch 0.65mm, IPC Low Density)
part A pins: 1 PE14/TIOC4C/DACK0/~{AH} (io), 2 PE15/TIOC4D/DACK1/~{IRQOUT} (io), 4 PC0/A0 (io), 5 PC1/A1 (io), 6 PC2/A2 (io), 7 PC3/A3 (io), 8 PC4/A4 (io), 9 PC5/A5 (io), 10 PC6/A6 (io), 11 PC7/A7 (io), 12 PC8/A8 (io), 13 PC9/A9 (io), 14 PC10/A10 (io), 15 PC11/A11 (io), 16 PC12/A12 (io), 17 PC13/A13 (io), 18 PC14/A14 (io), 19 PC15/A15 (io), 20 PB0/A16 (io), 22 PB1/A17 (io), 24 PB2/~{IRQ0}/~{POE0}/~{RAS} (io), 25 PB3/~{IRQ1}/~{POE1}/~{CASL} (io), 26 PB4/~{IRQ2}/~{POE2}/~{CASH} (io), 28 PB5/~{IRQ3}/~{POE3}/RDWR (io), 29 PB6/~{IRQ4}/A18/~{BACK} (io), 30 PB7/~{IRQ5}/A19/~{BREQ} (io), 31 PB8/~{IRQ6}/A20/~{WAIT} (io), 32 PB9/~{IRQ7}/A21/~{ADTRG} (io), 34 PA14/~{RD} (io), 35 ~{WDTOVF} (out), 36 PA13/~{WRH} (io), 38 PA12/~{WRL} (io), 40 PA11/~{CS1} (io), 41 PA10/~{CS0} (io), 42 PA9/TCLKD/~{IRQ3} (io), 43 PA8/TCLKC/~{IRQ2} (io), 44 PA7/TCLKB/~{CS3} (io), 45 PA6/TCLKA/~{CS2} (io), 46 PA5/SCK1/~{DREQ1}/~{IRQ1} (io), 47 PA4/TXD1 (io), 48 PA3/RXD1 (io), 49 PA2/SCK0/~{DREQ0}/~{IRQ0} (io), 50 PA1/TXD0 (io), 51 PA0/RXD0 (io), 52 PD15/D15 (io), 53 PD14/D14 (io), 54 PD13/D13 (io), 56 PD12/D12 (io), 57 PD11/D11 (io), 58 PD10/D10 (io), 59 PD9/D9 (io), 60 PD8/D8 (io), 62 PD7/D7 (io), 63 PD6/D6 (io), 64 PD5/D5 (io), 66 PD4/D4 (io), 67 PD3/D3 (io), 68 PD2/D2 (io), 69 PD1/D1 (io), 70 PD0/D0 (io), 72 XTAL (in), 73 MD3 (in), 74 EXTAL (in), 75 MD2 (in), 76 NMI (in), 78 MD1 (in), 79 MD0 (in), 81 PLLCAP, 83 PA15/CK (io), 84 ~{RES}/VPP, 85 PE0/TIOC0A/~{DREQ0} (io), 86 PE1/TIOC0B/DRAK0 (io), 87 PE2/TIOC0C/~{DREQ1} (io), 88 PE3/TIOC0D/DRAK1 (io), 89 PE4/TIOC1A (io), 91 PF0/AN0 (io), 92 PF1/AN1 (io), 93 PF2/AN2 (io), 94 PF3/AN3 (io), 95 PF4/AN4 (io), 96 PF5/AN5 (io), 98 PF6/AN6 (io), 99 PF7/AN7 (io), 102 PE5/TIOC1B (io), 104 PE6/TIOC2A (io), 105 PE7/TIOC2B (io), 106 PE8/TIOC3A (io), 107 PE9/TIOC3B (io), 108 PE10/TIOC3C (io), 110 PE11/TIOC3D (io), 111 PE12/TIOC4A (io), 112 PB13/TIOC4B/~{MRES} (io)
part B pins: 21 VCC (power), 37 VCC (power), 65 VCC (power), 77 VCC (FWP) (power), 80 PLLVCC (power), 100 AVCC (power), 103 VCC (power)
part C pins: 3 VSS (power), 23 VSS (power), 27 VSS (power), 33 VSS (power), 39 VSS (power), 55 VSS (power), 61 VSS (power), 71 VSS (power), 82 PLLVSS (power), 90 VSS (power), 97 AVSS (power), 101 VSS (power), 109 VSS (power)

## HD6437045XXXF
designator U?
32-Bit RISC Microcomputer, SH7040 Series, SH-2 core, 28.7MHz, 256K ROM, 4K(2K) RAM, FP-144 Package; Published: 28-Aug-2009; DatasheetVersion: Rev.6.00, May-2003; PackageVersion: Sep-2005; PackageReference: PRQP0144KB-A; Publisher: Altium Limited; PackageDescription: 144-Pin Plastic Quad Flat Pack, 20 x 20 x 2.7 mm Body, 0.5 mm Pitch; Code_JEITA: P-QFP144-20x20-0.50; ComponentLink1Description: Manufacturer Link; ComponentLink1URL: http://www.renesas.com/fmwk.jsp?cnt=sh7040_root.jsp&fp=/products/mpumcu/superh_family/sh7040_series/sh7040_group/; ComponentLink2Description: Datasheet; ComponentLink2URL: http://documentation.renesas.com/eng/products/mpumcu/rej09b0044_sh7040.pdf; ComponentLink3Description: Packaging Specification; ComponentLink3URL: http://sg.renesas.com/media/products/common_info/package/pdf/ic/code/prqp0144kb_a.pdf
footprint PRQP0144KB-A_N (Shrink QFP, 144-Leads, Body 20x20mm, Pitch 0.5mm, IPC Medium Density)
footprint PRQP0144KB-A_L (Shrink QFP, 144-Leads, Body 20x20mm, Pitch 0.5mm, IPC High Density)
footprint PRQP0144KB-A_M (Shrink QFP, 144-Leads, Body 20x20mm, Pitch 0.5mm, IPC Low Density)
part A pins: 1 PA23/~{WRHH} (io), 2 PE14/TIOC4C/DACK0/~{AH} (io), 3 PA22/WRHL (io), 4 PA21/~{CASHH} (io), 5 PE15/TIOC4D/DACK1/~{IRQOUT} (io), 7 PC0/A0 (io), 8 PC1/A1 (io), 9 PC2/A2 (io), 10 PC3/A3 (io), 11 PC4/A4 (io), 13 PC5/A5 (io), 15 PC6/A6 (io), 16 PC7/A7 (io), 17 PC8/A8 (io), 18 PC9/A9 (io), 19 PC10/A10 (io), 20 PC11/A11 (io), 21 PC12/A12 (io), 22 PC13/A13 (io), 23 PC14/A14 (io), 24 PC15/A15 (io), 25 PB0/A16 (io), 27 PB1/A17 (io), 29 PA20/~{CASHL} (io), 30 PA19/~{BACK}/DRAK1 (io), 31 PB2/~{IRQ0}/~{POE0}/~{RAS} (io), 32 PB3/~{IRQ1}/~{POE1}/~{CASL} (io), 33 PA18/~{BREQ}/DRAK0 (io), 34 PB4/~{IRQ2}/~{POE2}/~{CASH} (io), 36 PB5/~{IRQ3}/~{POE3}/RDWR (io), 37 PB6/~{IRQ4}/A18/~{BACK} (io), 38 PB7/~{IRQ5}/A19/~{BREQ} (io), 39 PB8/~{IRQ6}/A20/~{WAIT} (io), 41 PB9/~{IRQ7}/A21/~{ADTRG} (io), 43 PA14/~{RD} (io), 44 ~{WDTOVF} (out), 45 PD31/D31/~{ADTRG} (io), 46 PD30/D30/~{IRQOUT} (io), 47 PA13/~{WRH} (io), 48 PA12/~{WRL} (io), 49 PA11/~{CS1} (io), 50 PA10/~{CS0} (io), 51 PA9/TCLKD/~{IRQ3} (io), 52 PA8/TCLKC/~{IRQ2} (io), 53 PA7/TCLKB/~{CS3} (io), 54 PA6/TCLKA/~{CS2} (io), 56 PD29/D29/~{CS3} (io), 57 PD28/D28/~{CS2} (io), 58 PD27/D27/DACK1 (io), 59 PD26/D26/DACK0 (io), 60 PD25/D25/~{DREQ1} (io), 62 PD24/D24/~{DREQ0} (io), 64 PD23/D23/~{IRQ7} (io), 65 PD22/D22/~{IRQ6} (io), 66 PD21/D21/~{IRQ5} (io), 67 PD20/D20/~{IRQ4} (io), 68 PD19/D19/~{IRQ3} (io), 69 PD18/D18/~{IRQ2} (io), 70 PD17/D17/~{IRQ1} (io), 72 PD16/D16/~{IRQ0} (io), 73 PD15/D15 (io), 74 PD14/D14 (io), 75 PD13/D13 (io), 76 PD12/D12 (io), 78 PD11/D11 (io), 80 PD10/D10 (io), 81 PD9/D9 (io), 82 PD8/D8 (io), 83 PD7/D7 (io), 84 PD6/D6 (io), 86 PD5/D5 (io), 88 PD4/D4 (io), 89 PD3/D3 (io), 90 PD2/D2 (io), 91 PD1/D1 (io), 92 PD0/D0 (io), 94 XTAL (in), 95 MD3 (in), 96 EXTAL (in), 97 MD2 (in), 98 NMI (in), 100 PA16/~{AH} (io), 101 PA17/~{WAIT} (io), 102 MD1 (in), 103 MD0 (in), 105 PLLCAP, 107 PA15/CK (io), 108 ~{RES}/VPP, 109 PE0/TIOC0A/~{DREQ0} (io), 110 PE1/TIOC0B/DRAK0 (io), 111 PE2/TIOC0C/~{DREQ1} (io), 113 PE3/TIOC0D/DRAK1 (io), 114 PE4/TIOC1A (io), 115 PE5/TIOC1B (io), 116 PE6/TIOC2A (io), 118 PF0/AN0 (io), 119 PF1/AN1 (io), 120 PF2/AN2 (io), 121 PF3/AN3 (io), 122 PF4/AN4 (io), 123 PF5/AN5 (io), 125 PF6/AN6 (io), 126 PF7/AN7 (io), 127 AVREF (in), 130 PA0/RXD0 (io), 131 PA1/TXD0 (io), 132 PA2/SCK0/~{DREQ0}/~{IRQ0} (io), 133 PA3/RXD1 (io), 134 PA4/TXD1 (io), 136 PA5/SCK1/~{DREQ1}/~{IRQ1} (io), 137 PE7/TIOC2B (io), 138 PE8/TIOC3A (io), 139 PE9/TIOC3B (io), 140 PE10/TIOC3C (io), 142 PE11/TIOC3D (io), 143 PE12/TIOC4A (io), 144 PE13/TIOC4B/~{MRES} (io)
part B pins: 12 VCC (power), 26 VCC (power), 40 VCC (power), 63 VCC (power), 77 VCC (power), 85 VCC (power), 99 VCC (FWP) (power), 104 PLLVCC (power), 112 VCC (power), 128 AVCC (power), 135 VCC (power)
part C pins: 6 VSS (power), 14 VSS (power), 28 VSS (power), 35 VSS (power), 42 VSS (power), 55 VSS (power), 61 VSS (power), 71 VSS (power), 79 VSS (power), 87 VSS (power), 93 VSS (power), 106 PLLVSS (power), 117 VSS (power), 124 AVSS (power), 129 VSS (power), 141 VSS (power)

## HD6437048XXXF
designator U?
32-Bit RISC Microcomputer, SH7046 Series, SH-2 core, 50MHz, 128K ROM, 4K RAM, PRQP0080JD-A (FP-80Q) Package; Published: 28-Aug-2009; DatasheetVersion: Rev.4.00, Dec-2005; PackageVersion: Sep-2005; PackageReference: PRQP0080JD-A; Publisher: Altium Limited; PackageDescription: 80-Pin Plastic Quad Flat Pack, 14 x 14 x 2.7 mm Body, 0.65 mm Pitch; Code_JEITA: P-QFP80-14x14-0.65; Code_IPC: QFP65P1720X1720-80; ComponentLink1Description: Manufacturer Link; ComponentLink1URL: http://www.renesas.com/fmwk.jsp?cnt=sh7046_root.jsp&fp=/products/mpumcu/superh_family/sh7046_series/sh7046_group/; ComponentLink2Description: Datasheet; ComponentLink2URL: http://documentation.renesas.com/eng/products/mpumcu/rej09b0270_7046.pdf; ComponentLink3Description: Packaging Specification; ComponentLink3URL: http://sg.renesas.com/media/products/common_info/package/pdf/ic/code/prqp0080jd_a.pdf
footprint PRQP0080JD-A_N (QFP, 80-Leads, Body 14x14mm, Pitch 0.65mm, IPC Medium Density)
footprint PRQP0080JD-A_L (QFP, 80-Leads, Body 14x14mm, Pitch 0.65mm, IPC High Density)
footprint PRQP0080JD-A_M (QFP, 80-Leads, Body 14x14mm, Pitch 0.65mm, IPC Low Density)
part A pins: 1 PE2/TIOC0C (io), 2 PE3/TIOC0D (io), 3 PE4/TIOC1A/RXD3 (io), 4 PE5/TIOC1B/TXD3 (io), 5 PE6/TIOC2A/SCK3 (io), 6 PE7/TIOC2B/RXD2 (io), 7 PE8/TIOC3A/SCK2 (io), 8 PE9/TIOC3B (io), 10 PE10/TIOC3C/TXD2 (io), 12 PE11/TIOC3D (io), 13 PE12/TIOC4A (io), 14 PE13/TIOC4B/~{MRES} (io), 15 PE14/TIOC4C (io), 16 PE15/TIOC4D/~{IRQOUT} (io), 17 PE16/PUOA/~{UBCTRG} (io), 18 PE17/PVOA (io), 19 PE18/PWOA (io), 20 PE19/PUOB (io), 21 PE20/PVOB (io), 23 PE21/PWOB (io), 26 PF15/AN15 (io), 28 PF14/AN14 (io), 29 PF13/AN13 (io), 30 PF12/AN12 (io), 31 PG3/AN19 (io), 32 PG2/AN18 (io), 33 PG1/AN17 (io), 34 PG0/AN16 (io), 35 PF11/AN11 (io), 36 PF10/AN10 (io), 37 PF9/AN9 (io), 39 PF8/AN8 (io), 42 PB5/~{IRQ3}/~{POE3} (io), 44 PB4/~{IRQ2}/~{POE2} (io), 45 PB3/~{IRQ1}/~{POE1} (io), 46 PB2/~{IRQ0}/~{POE0} (io), 47 PA15/~{POE6} (io), 48 PA14/~{POE5} (io), 49 PA13/~{POE4} (io), 50 PA12/~{UBCTRG} (io), 51 PA11/~{ADTRG}/SCK3 (io), 52 PA10/SCK2 (io), 53 PA9/TCLKD/~{IRQ3}/TXD3 (io), 54 PA8/TCLKC/~{IRQ2}/RXD3 (io), 55 PA7/TCLKB/TXD2 (io), 56 PA6/TCLKA/RXD2 (io), 57 PA5/~{IRQ1}/~{POE6}/SCK3 (io), 58 PA4/~{POE5}/TXD3 (io), 59 PA3/~{POE4}/RXD3 (io), 60 PA2/~{IRQ0}/PCIO/SCK2 (io), 61 PA1/~{POE1}/TXD2 (io), 63 PA0/~{POE0}/RXD2 (io), 65 FWP (in), 67 ~{RES} (in), 68 NMI (in), 69 MD3 (in), 70 MD2 (in), 71 MD1 (in), 72 MD0 (in), 73 EXTAL (in), 74 XTAL (in), 75 PLLVCL, 76 PLLCAP, 78 ~{WDTOVF} (out), 79 PE0/TIOC0A (io), 80 PE1/TIOC0B (io)
part B pins: 11 VCC (power), 22 VCL, 27 AVCC (power), 38 AVCC (power), 43 VCC (power), 62 VCL, 66 VCC (power)
part C pins: 9 VSS (power), 24 VSS (power), 25 AVSS (power), 40 AVSS (power), 41 VSS (power), 64 VSS (power), 77 PLLVSS (power)

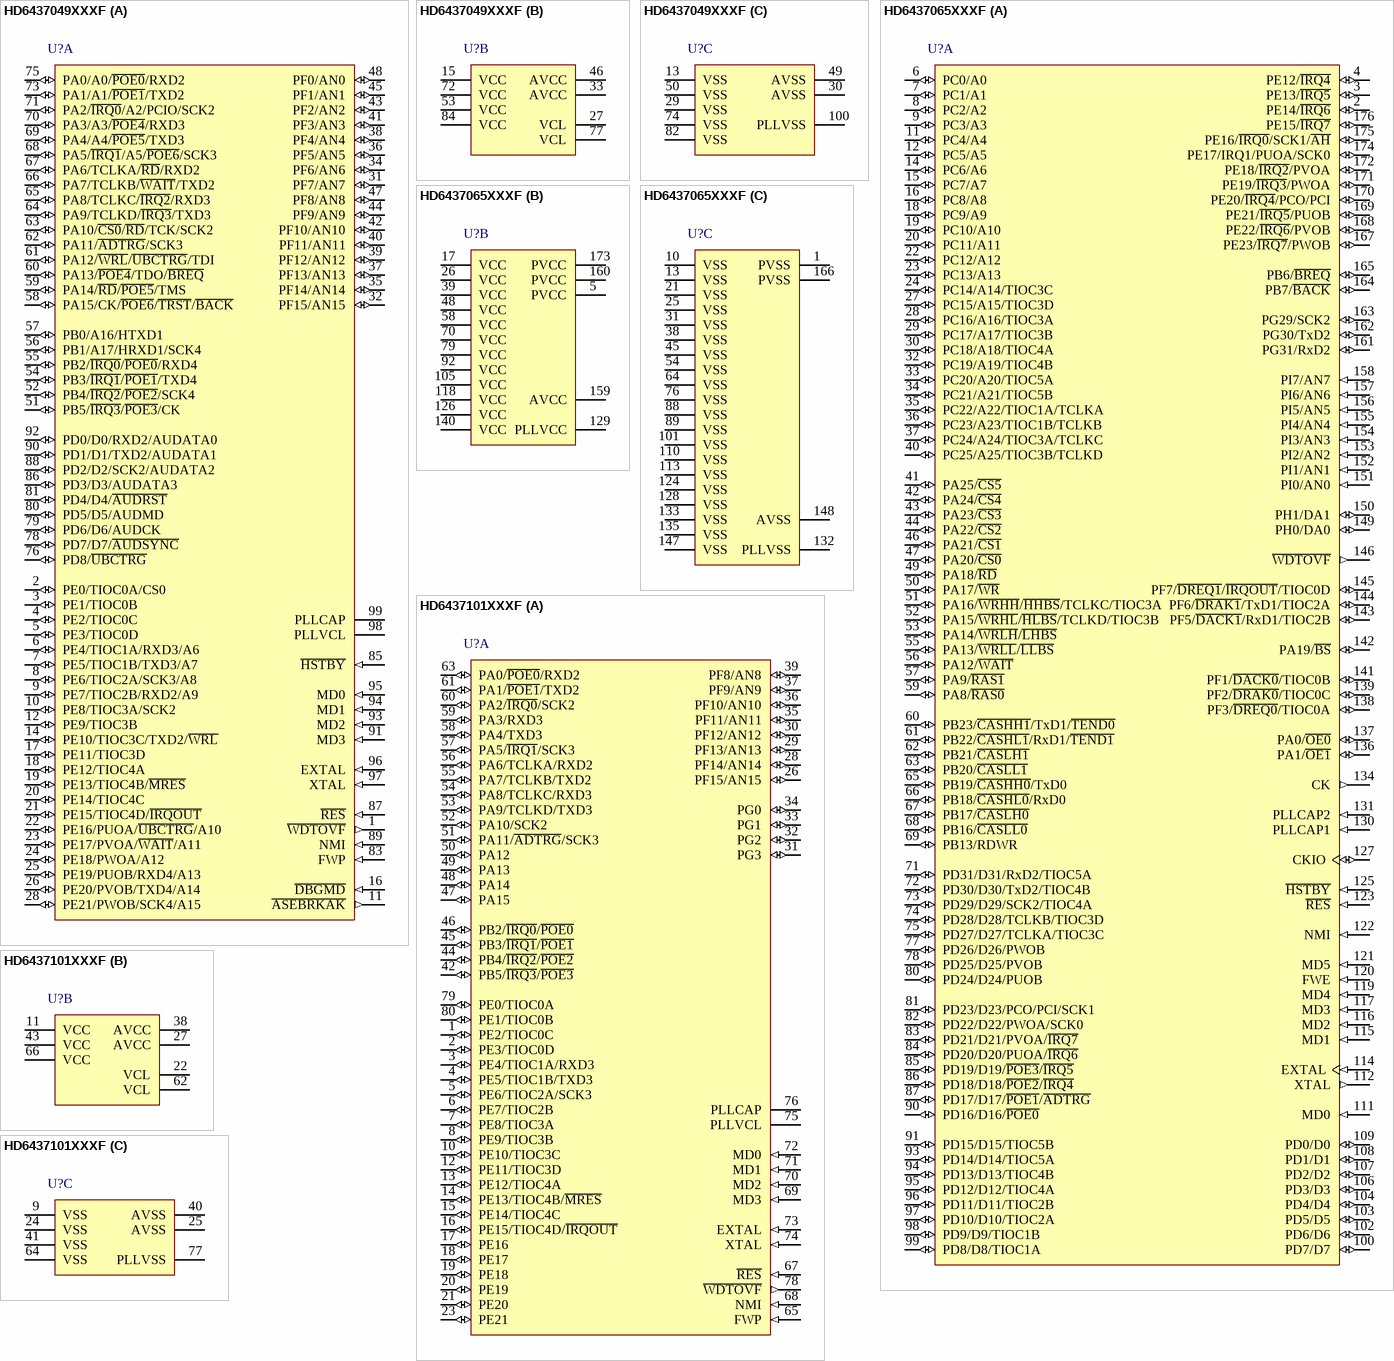
[diagram p109: symbols HD6437049XXXF to HD6437101XXXF]

## HD6437049XXXF
designator U?
32-Bit RISC Microcomputer, SH7047 Series, SH-2 core, 50MHz, 128K ROM, 8K RAM, PRQP0100KB-A (FP-100M) Package; Published: 28-Aug-2009; DatasheetVersion: Rev.2.00, Sep-2004; PackageVersion: Sep-2009; PackageReference: PRQP0100KB-A; Publisher: Altium Limited; PackageDescription: 100-Pin Plastic Quad Flat Pack, 14 x 14 x 2.7 mm Body, 0.5 mm Pitch; Code_JEITA: P-QFP100-14x14-0.50; ComponentLink1Description: Manufacturer Link; ComponentLink1URL: http://www.renesas.com/fmwk.jsp?cnt=sh7047_root.jsp&fp=/products/mpumcu/superh_family/sh7047_series/sh7047_group/; ComponentLink2Description: Datasheet; ComponentLink2URL: http://documentation.renesas.com/eng/products/mpumcu/rej09b0020_sh7047.pdf; ComponentLink3Description: Packaging Specification; ComponentLink3URL: http://sg.renesas.com/media/products/common_info/package/pdf/ic/code/prqp0100kb_a.pdf
footprint PRQP0100KB-A_N (Shrink QFP, 100-Leads, Body 14x14mm, Pitch 0.5mm, IPC Medium Density)
footprint PRQP0100KB-A_L (Shrink QFP, 100-Leads, Body 14x14mm, Pitch 0.5mm, IPC High Density)
footprint PRQP0100KB-A_M (Shrink QFP, 100-Leads, Body 14x14mm, Pitch 0.5mm, IPC Low Density)
part A pins: 1 ~{WDTOVF} (out), 2 PE0/TIOC0A/CS0 (io), 3 PE1/TIOC0B (io), 4 PE2/TIOC0C (io), 5 PE3/TIOC0D (io), 6 PE4/TIOC1A/RXD3/A6 (io), 7 PE5/TIOC1B/TXD3/A7 (io), 8 PE6/TIOC2A/SCK3/A8 (io), 9 PE7/TIOC2B/RXD2/A9 (io), 10 PE8/TIOC3A/SCK2 (io), 11 ~{ASEBRKAK} (out), 12 PE9/TIOC3B (io), 14 PE10/TIOC3C/TXD2/~{WRL} (io), 16 ~{DBGMD} (in), 17 PE11/TIOC3D (io), 18 PE12/TIOC4A (io), 19 PE13/TIOC4B/~{MRES} (io), 20 PE14/TIOC4C (io), 21 PE15/TIOC4D/~{IRQOUT} (io), 22 PE16/PUOA/~{UBCTRG}/A10 (io), 23 PE17/PVOA/~{WAIT}/A11 (io), 24 PE18/PWOA/A12 (io), 25 PE19/PUOB/RXD4/A13 (io), 26 PE20/PVOB/TXD4/A14 (io), 28 PE21/PWOB/SCK4/A15 (io), 31 PF7/AN7 (io), 32 PF15/AN15 (io), 34 PF6/AN6 (io), 35 PF14/AN14 (io), 36 PF5/AN5 (io), 37 PF13/AN13 (io), 38 PF4/AN4 (io), 39 PF12/AN12 (io), 40 PF11/AN11 (io), 41 PF3/AN3 (io), 42 PF10/AN10 (io), 43 PF2/AN2 (io), 44 PF9/AN9 (io), 45 PF1/AN1 (io), 47 PF8/AN8 (io), 48 PF0/AN0 (io), 51 PB5/~{IRQ3}/~{POE3}/CK (io), 52 PB4/~{IRQ2}/~{POE2}/SCK4 (io), 54 PB3/~{IRQ1}/~{POE1}/TXD4 (io), 55 PB2/~{IRQ0}/~{POE0}/RXD4 (io), 56 PB1/A17/HRXD1/SCK4 (io), 57 PB0/A16/HTXD1 (io), 58 PA15/CK/~{POE6}/~{TRST}/~{BACK} (io), 59 PA14/~{RD}/~{POE5}/TMS (io), 60 PA13/~{POE4}/TDO/~{BREQ} (io), 61 PA12/~{WRL}/~{UBCTRG}/TDI (io), 62 PA11/~{ADTRG}/SCK3 (io), 63 PA10/~{CS0}/~{RD}/TCK/SCK2 (io), 64 PA9/TCLKD/~{IRQ3}/TXD3 (io), 65 PA8/TCLKC/~{IRQ2}/RXD3 (io), 66 PA7/TCLKB/~{WAIT}/TXD2 (io), 67 PA6/TCLKA/~{RD}/RXD2 (io), 68 PA5/~{IRQ1}/A5/~{POE6}/SCK3 (io), 69 PA4/A4/~{POE5}/TXD3 (io), 70 PA3/A3/~{POE4}/RXD3 (io), 71 PA2/~{IRQ0}/A2/PCIO/SCK2 (io), 73 PA1/A1/~{POE1}/TXD2 (io), 75 PA0/A0/~{POE0}/RXD2 (io), 76 PD8/~{UBCTRG} (io), 78 PD7/D7/~{AUDSYNC} (io), 79 PD6/D6/AUDCK (io), 80 PD5/D5/AUDMD (io), 81 PD4/D4/~{AUDRST} (io), 83 FWP (in), 85 ~{HSTBY} (in), 86 PD3/D3/AUDATA3 (io), 87 ~{RES} (in), 88 PD2/D2/SCK2/AUDATA2 (io), 89 NMI (in), 90 PD1/D1/TXD2/AUDATA1 (io), 91 MD3 (in), 92 PD0/D0/RXD2/AUDATA0 (io), 93 MD2 (in), 94 MD1 (in), 95 MD0 (in), 96 EXTAL (in), 97 XTAL (in), 98 PLLVCL, 99 PLLCAP
part B pins: 15 VCC (power), 27 VCL, 33 AVCC (power), 46 AVCC (power), 53 VCC (power), 72 VCC (power), 77 VCL, 84 VCC (power)
part C pins: 13 VSS (power), 29 VSS (power), 30 AVSS (power), 49 AVSS (power), 50 VSS (power), 74 VSS (power), 82 VSS (power), 100 PLLVSS (power)

## HD6437065XXXF
designator U?
32-Bit RISC Microcomputer, SH7060 Series, SH2-DSP core, 60MHz, 256K ROM, 8K RAM, 176-pin LQFP, -20 to 75°C; Published: 28-Aug-2009; DatasheetVersion: Rev.5.00, Sep-2006; PackageVersion: Sep-2005; PackageReference: PLQP0176KD-A; Publisher: Altium Limited; PackageDescription: 176-Pin Plastic Low Profile QFP, 24 x 24 x 1.4 mm Body, 0.5 mm Pitch; Code_JEITA: P-LQFP176-24x24-0.50; ComponentLink1Description: Manufacturer Link; ComponentLink1URL: http://www.renesas.com/fmwk.jsp?cnt=sh7065_root.jsp&fp=/products/mpumcu/superh_family/sh7060_series/sh7065_group/; ComponentLink2Description: Datasheet; ComponentLink2URL: http://documentation.renesas.com/eng/products/mpumcu/rej09b0332_sh7065hm.pdf; ComponentLink3Description: Packaging Specification; ComponentLink3URL: http://sg.renesas.com/media/products/common_info/package/pdf/ic/code/plqp0176kd_a.pdf
footprint PLQP0176KD-A_N (Shrink QFP, 176-Leads, Body 24x24mm, Pitch 0.5mm, IPC Medium Density)
footprint PLQP0176KD-A_L (Shrink QFP, 176-Leads, Body 24x24mm, Pitch 0.5mm, IPC High Density)
footprint PLQP0176KD-A_M (Shrink QFP, 176-Leads, Body 24x24mm, Pitch 0.5mm, IPC Low Density)
part A pins: 2 PE14/~{IRQ6} (io), 3 PE13/~{IRQ5} (io), 4 PE12/~{IRQ4} (io), 6 PC0/A0 (io), 7 PC1/A1 (io), 8 PC2/A2 (io), 9 PC3/A3 (io), 11 PC4/A4 (io), 12 PC5/A5 (io), 14 PC6/A6 (io), 15 PC7/A7 (io), 16 PC8/A8 (io), 18 PC9/A9 (io), 19 PC10/A10 (io), 20 PC11/A11 (io), 22 PC12/A12 (io), 23 PC13/A13 (io), 24 PC14/A14/TIOC3C (io), 27 PC15/A15/TIOC3D (io), 28 PC16/A16/TIOC3A (io), 29 PC17/A17/TIOC3B (io), 30 PC18/A18/TIOC4A (io), 32 PC19/A19/TIOC4B (io), 33 PC20/A20/TIOC5A (io), 34 PC21/A21/TIOC5B (io), 35 PC22/A22/TIOC1A/TCLKA (io), 36 PC23/A23/TIOC1B/TCLKB (io), 37 PC24/A24/TIOC3A/TCLKC (io), 40 PC25/A25/TIOC3B/TCLKD (io), 41 PA25/~{CS5} (io), 42 PA24/~{CS4} (io), 43 PA23/~{CS3} (io), 44 PA22/~{CS2} (io), 46 PA21/~{CS1} (io), 47 PA20/~{CS0} (io), 49 PA18/~{RD} (io), 50 PA17/~{WR} (io), 51 PA16/~{WRHH}/~{HHBS}/TCLKC/TIOC3A (io), 52 PA15/~{WRHL}/~{HLBS}/TCLKD/TIOC3B (io), 53 PA14/~{WRLH}/~{LHBS} (io), 55 PA13/~{WRLL}/~{LLBS} (io), 56 PA12/~{WAIT} (io), 57 PA9/~{RAS1} (io), 59 PA8/~{RAS0} (io), 60 PB23/~{CASHH1}/TxD1/~{TEND0} (io), 61 PB22/~{CASHL1}/RxD1/~{TEND1} (io), 62 PB21/~{CASLH1} (io), 63 PB20/~{CASLL1} (io), 65 PB19/~{CASHH0}/TxD0 (io), 66 PB18/~{CASHL0}/RxD0 (io), 67 PB17/~{CASLH0} (io), 68 PB16/~{CASLL0} (io), 69 PB13/RDWR (io), 71 PD31/D31/RxD2/TIOC5A (io), 72 PD30/D30/TxD2/TIOC4B (io), 73 PD29/D29/SCK2/TIOC4A (io), 74 PD28/D28/TCLKB/TIOC3D (io), 75 PD27/D27/TCLKA/TIOC3C (io), 77 PD26/D26/PWOB (io), 78 PD25/D25/PVOB (io), 80 PD24/D24/PUOB (io), 81 PD23/D23/PCO/PCI/SCK1 (io), 82 PD22/D22/PWOA/SCK0 (io), 83 PD21/D21/PVOA/~{IRQ7} (io), 84 PD20/D20/PUOA/~{IRQ6} (io), 85 PD19/D19/~{POE3}/~{IRQ5} (io), 86 PD18/D18/~{POE2}/~{IRQ4} (io), 87 PD17/D17/~{POE1}/~{ADTRG} (io), 90 PD16/D16/~{POE0} (io), 91 PD15/D15/TIOC5B (io), 93 PD14/D14/TIOC5A (io), 94 PD13/D13/TIOC4B (io), 95 PD12/D12/TIOC4A (io), 96 PD11/D11/TIOC2B (io), 97 PD10/D10/TIOC2A (io), 98 PD9/D9/TIOC1B (io), 99 PD8/D8/TIOC1A (io), 100 PD7/D7 (io), 102 PD6/D6 (io), 103 PD5/D5 (io), 104 PD4/D4 (io), 106 PD3/D3 (io), 107 PD2/D2 (io), 108 PD1/D1 (io), 109 PD0/D0 (io), 111 MD0 (in), 112 XTAL (out), 114 EXTAL (in), 115 MD1 (in), 116 MD2 (in), 117 MD3 (in), 119 MD4 (in), 120 FWE (in), 121 MD5 (in), 122 NMI (in), 123 ~{RES} (in), 125 ~{HSTBY} (in), 127 CKIO (io), 130 PLLCAP1 (in), 131 PLLCAP2 (in), 134 CK (out), 136 PA1/~{OE1} (io), 137 PA0/~{OE0} (io), 138 PF3/~{DREQ0}/TIOC0A (io), 139 PF2/~{DRAK0}/TIOC0C (io), 141 PF1/~{DACK0}/TIOC0B (io), 142 PA19/~{BS} (io), 143 PF5/~{DACK1}/RxD1/TIOC2B (io), 144 PF6/~{DRAK1}/TxD1/TIOC2A (io), 145 PF7/~{DREQ1}/~{IRQOUT}/TIOC0D (io), 146 ~{WDTOVF} (out), 149 PH0/DA0 (io), 150 PH1/DA1 (io), 151 PI0/AN0 (in), 152 PI1/AN1 (in), 153 PI2/AN2 (in), 154 PI3/AN3 (in), 155 PI4/AN4 (in), 156 PI5/AN5 (in), 157 PI6/AN6 (in), 158 PI7/AN7 (in), 161 PG31/RxD2 (io), 162 PG30/TxD2 (io), 163 PG29/SCK2 (io), 164 PB7/~{BACK} (io), 165 PB6/~{BREQ} (io), 167 PE23/~{IRQ7}/PWOB (io), 168 PE22/~{IRQ6}/PVOB (io), 169 PE21/~{IRQ5}/PUOB (io), 170 PE20/~{IRQ4}/PCO/PCI (io), 171 PE19/~{IRQ3}/PWOA (io), 172 PE18/~{IRQ2}/PVOA (io), 174 PE17/IRQ1/PUOA/SCK0 (io), 175 PE16/~{IRQ0}/SCK1/~{AH} (io), 176 PE15/~{IRQ7} (io)
part B pins: 5 PVCC (power), 17 VCC (power), 26 VCC (power), 39 VCC (power), 48 VCC (power), 58 VCC (power), 70 VCC (power), 79 VCC (power), 92 VCC (power), 105 VCC (power), 118 VCC (power), 126 VCC (power), 129 PLLVCC (power), 140 VCC (power), 159 AVCC (power), 160 PVCC (power), 173 PVCC (power)
part C pins: 1 PVSS (power), 10 VSS (power), 13 VSS (power), 21 VSS (power), 25 VSS (power), 31 VSS (power), 38 VSS (power), 45 VSS (power), 54 VSS (power), 64 VSS (power), 76 VSS (power), 88 VSS (power), 89 VSS (power), 101 VSS (power), 110 VSS (power), 113 VSS (power), 124 VSS (power), 128 VSS (power), 132 PLLVSS (power), 133 VSS (power), 135 VSS (power), 147 VSS (power), 148 AVSS (power), 166 PVSS (power)